# Altium schematic symbol library BundledUserSymbols.SchLib: 915 symbols (part 2 of 17)
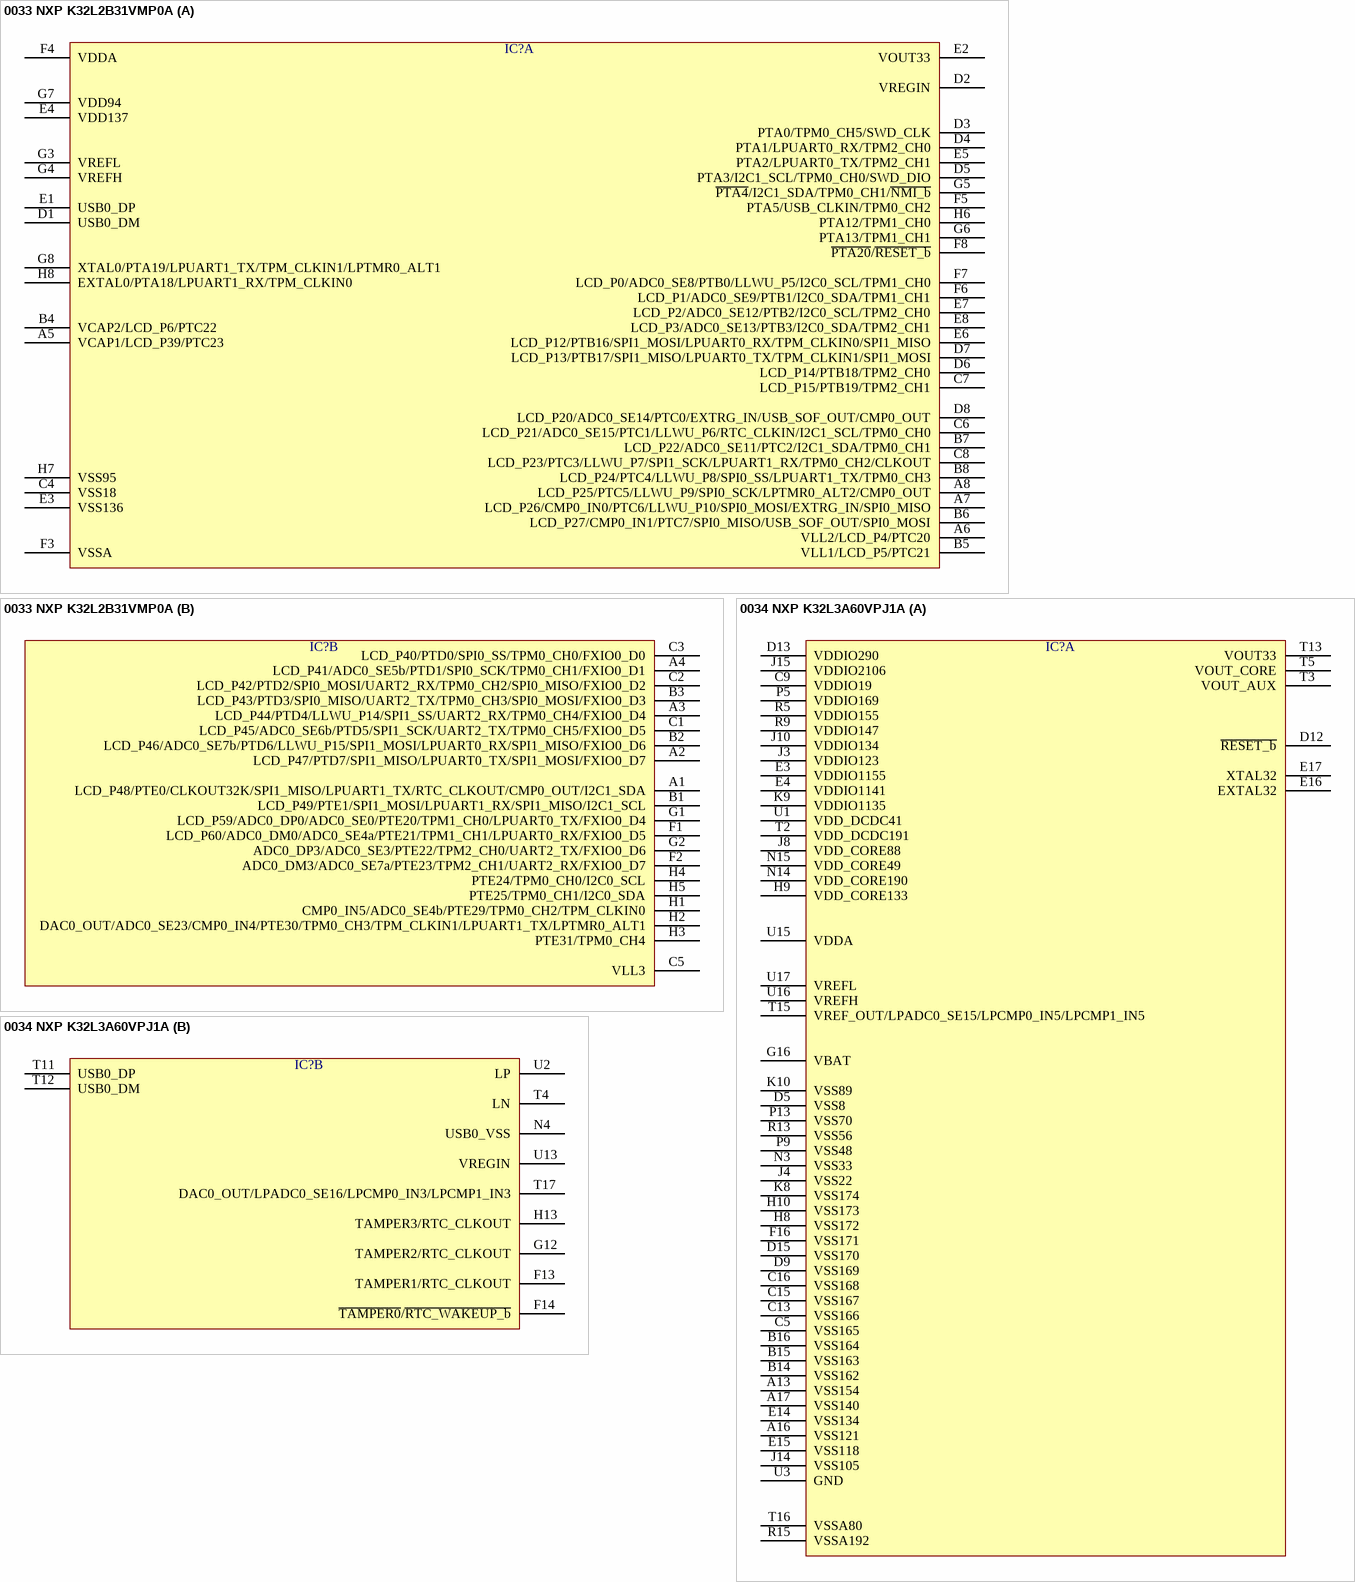
[diagram p170: symbols 0033 NXP K32L2B31VMP0A to 0034 NXP K32L3A60VPJ1A]

## 0033 NXP K32L2B31VMP0A
designator IC?  (value not drawn)
part A pins: A5 VCAP1/LCD_P39/PTC23, A6 VLL2/LCD_P4/PTC20, A7 LCD_P26/CMP0_IN0/PTC6/LLWU_P10/SPI0_MOSI/EXTRG_IN/SPI0_MISO, A8 LCD_P25/PTC5/LLWU_P9/SPI0_SCK/LPTMR0_ALT2/CMP0_OUT, B4 VCAP2/LCD_P6/PTC22, B5 VLL1/LCD_P5/PTC21, B6 LCD_P27/CMP0_IN1/PTC7/SPI0_MISO/USB_SOF_OUT/SPI0_MOSI, B7 LCD_P22/ADC0_SE11/PTC2/I2C1_SDA/TPM0_CH1, B8 LCD_P24/PTC4/LLWU_P8/SPI0_SS/LPUART1_TX/TPM0_CH3, C4 VSS18, C6 LCD_P21/ADC0_SE15/PTC1/LLWU_P6/RTC_CLKIN/I2C1_SCL/TPM0_CH0, C7 LCD_P15/PTB19/TPM2_CH1, C8 LCD_P23/PTC3/LLWU_P7/SPI1_SCK/LPUART1_RX/TPM0_CH2/CLKOUT, D1 USB0_DM, D2 VREGIN, D3 PTA0/TPM0_CH5/SWD_CLK, D4 PTA1/LPUART0_RX/TPM2_CH0, D5 PTA3/I2C1_SCL/TPM0_CH0/SWD_DIO, D6 LCD_P14/PTB18/TPM2_CH0, D7 LCD_P13/PTB17/SPI1_MISO/LPUART0_TX/TPM_CLKIN1/SPI1_MOSI, D8 LCD_P20/ADC0_SE14/PTC0/EXTRG_IN/USB_SOF_OUT/CMP0_OUT, E1 USB0_DP, E2 VOUT33, E3 VSS136, E4 VDD137, E5 PTA2/LPUART0_TX/TPM2_CH1, E6 LCD_P12/PTB16/SPI1_MOSI/LPUART0_RX/TPM_CLKIN0/SPI1_MISO, E7 LCD_P2/ADC0_SE12/PTB2/I2C0_SCL/TPM2_CH0, E8 LCD_P3/ADC0_SE13/PTB3/I2C0_SDA/TPM2_CH1, F3 VSSA, F4 VDDA, F5 PTA5/USB_CLKIN/TPM0_CH2, F6 LCD_P1/ADC0_SE9/PTB1/I2C0_SDA/TPM1_CH1, F7 LCD_P0/ADC0_SE8/PTB0/LLWU_P5/I2C0_SCL/TPM1_CH0, F8 ~{PTA20}/~{RESET_b}, G3 VREFL, G4 VREFH, G5 ~{PTA4}/I2C1_SDA/TPM0_CH1/~{NMI_b}, G6 PTA13/TPM1_CH1, G7 VDD94, G8 XTAL0/PTA19/LPUART1_TX/TPM_CLKIN1/LPTMR0_ALT1, H6 PTA12/TPM1_CH0, H7 VSS95, H8 EXTAL0/PTA18/LPUART1_RX/TPM_CLKIN0
part B pins: A1 LCD_P48/PTE0/CLKOUT32K/SPI1_MISO/LPUART1_TX/RTC_CLKOUT/CMP0_OUT/I2C1_SDA, A2 LCD_P47/PTD7/SPI1_MISO/LPUART0_TX/SPI1_MOSI/FXIO0_D7, A3 LCD_P44/PTD4/LLWU_P14/SPI1_SS/UART2_RX/TPM0_CH4/FXIO0_D4, A4 LCD_P41/ADC0_SE5b/PTD1/SPI0_SCK/TPM0_CH1/FXIO0_D1, B1 LCD_P49/PTE1/SPI1_MOSI/LPUART1_RX/SPI1_MISO/I2C1_SCL, B2 LCD_P46/ADC0_SE7b/PTD6/LLWU_P15/SPI1_MOSI/LPUART0_RX/SPI1_MISO/FXIO0_D6, B3 LCD_P43/PTD3/SPI0_MISO/UART2_TX/TPM0_CH3/SPI0_MOSI/FXIO0_D3, C1 LCD_P45/ADC0_SE6b/PTD5/SPI1_SCK/UART2_TX/TPM0_CH5/FXIO0_D5, C2 LCD_P42/PTD2/SPI0_MOSI/UART2_RX/TPM0_CH2/SPI0_MISO/FXIO0_D2, C3 LCD_P40/PTD0/SPI0_SS/TPM0_CH0/FXIO0_D0, C5 VLL3, F1 LCD_P60/ADC0_DM0/ADC0_SE4a/PTE21/TPM1_CH1/LPUART0_RX/FXIO0_D5, F2 ADC0_DM3/ADC0_SE7a/PTE23/TPM2_CH1/UART2_RX/FXIO0_D7, G1 LCD_P59/ADC0_DP0/ADC0_SE0/PTE20/TPM1_CH0/LPUART0_TX/FXIO0_D4, G2 ADC0_DP3/ADC0_SE3/PTE22/TPM2_CH0/UART2_TX/FXIO0_D6, H1 CMP0_IN5/ADC0_SE4b/PTE29/TPM0_CH2/TPM_CLKIN0, H2 DAC0_OUT/ADC0_SE23/CMP0_IN4/PTE30/TPM0_CH3/TPM_CLKIN1/LPUART1_TX/LPTMR0_ALT1, H3 PTE31/TPM0_CH4, H4 PTE24/TPM0_CH0/I2C0_SCL, H5 PTE25/TPM0_CH1/I2C0_SDA

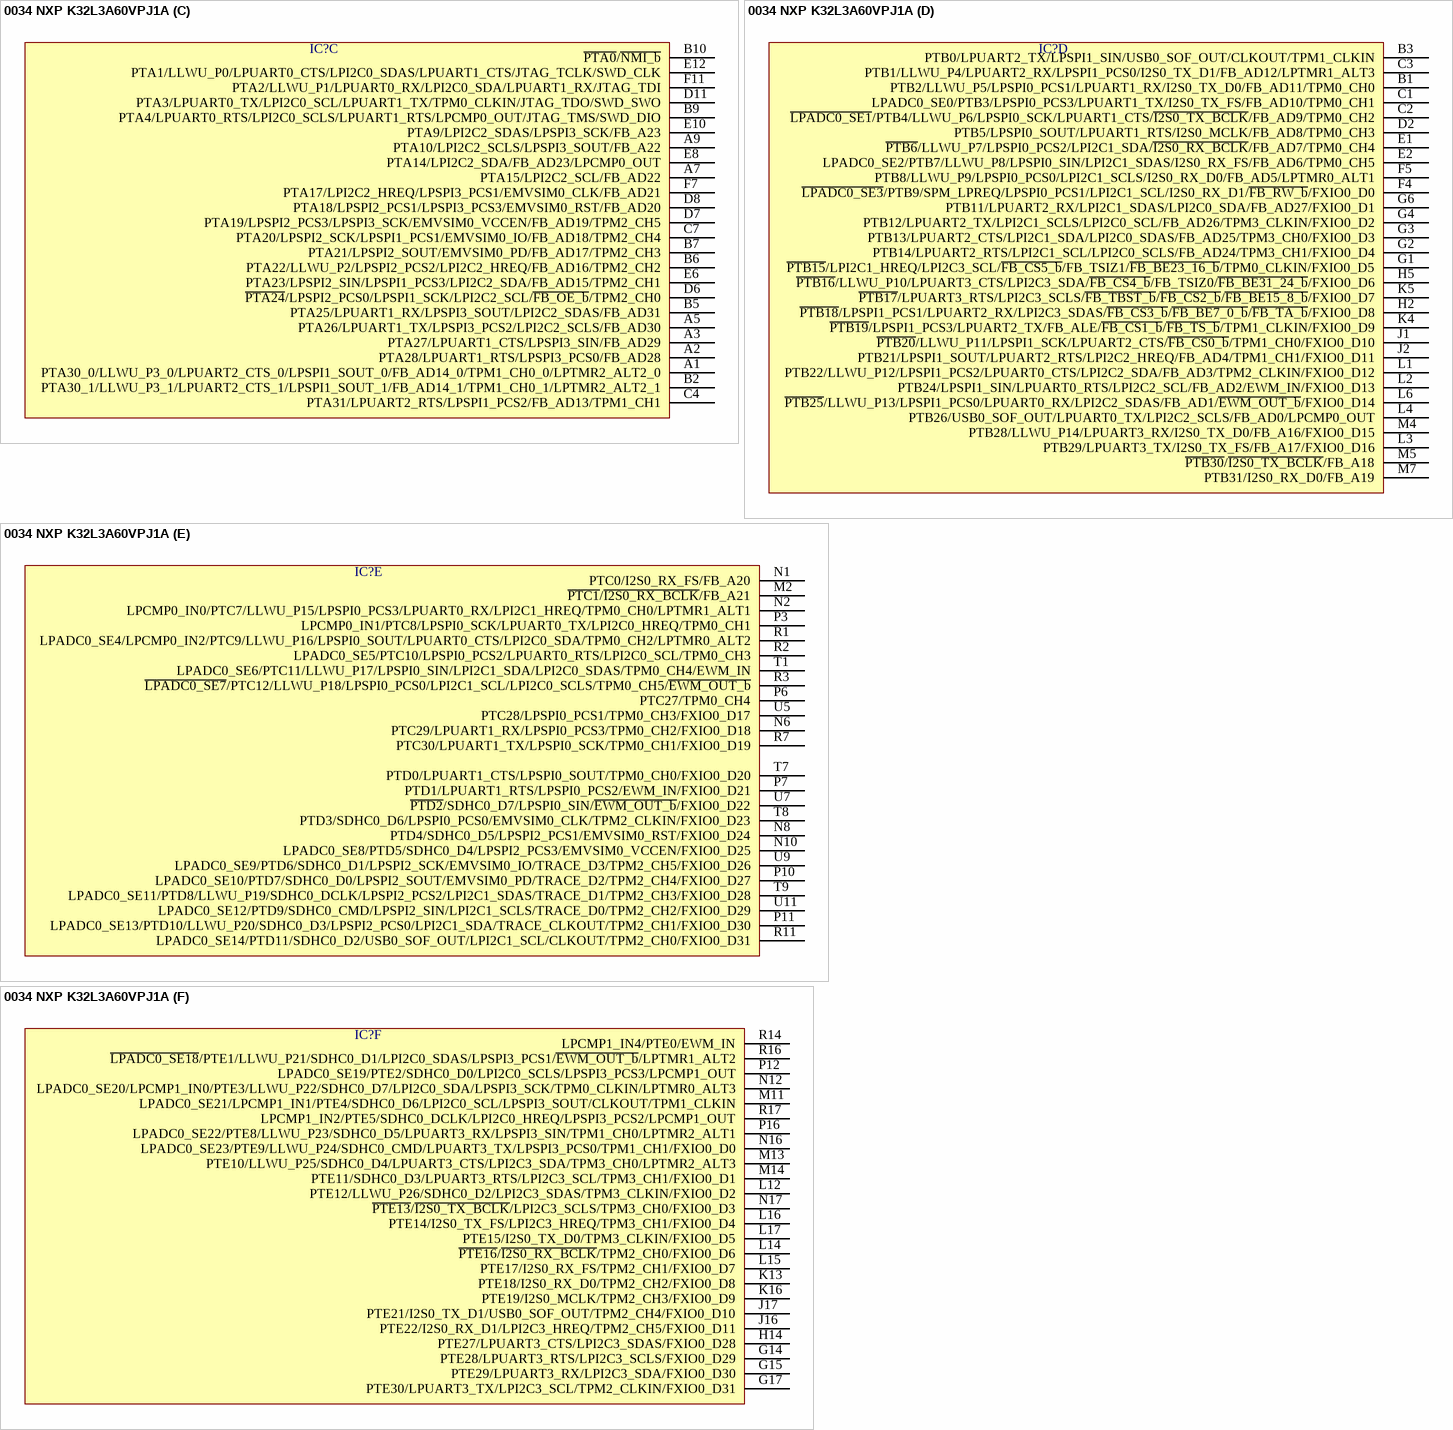
[diagram p14: symbol 0034 NXP K32L3A60VPJ1A]

## 0034 NXP K32L3A60VPJ1A
designator IC?  (value not drawn)
part A pins: A13 VSS154, A16 VSS121, A17 VSS140, B14 VSS162, B15 VSS163, B16 VSS164, C5 VSS165, C9 VDDIO19, C13 VSS166, C15 VSS167, C16 VSS168, D5 VSS8, D9 VSS169, D12 ~{RESET_b}, D13 VDDIO290, D15 VSS170, E3 VDDIO1155, E4 VDDIO1141, E14 VSS134, E15 VSS118, E16 EXTAL32, E17 XTAL32, F16 VSS171, G16 VBAT, H8 VSS172, H9 VDD_CORE133, H10 VSS173, J3 VDDIO123, J4 VSS22, J8 VDD_CORE88, J10 VDDIO134, J14 VSS105, J15 VDDIO2106, K8 VSS174, K9 VDDIO1135, K10 VSS89, N3 VSS33, N14 VDD_CORE190, N15 VDD_CORE49, P5 VDDIO169, P9 VSS48, P13 VSS70, R5 VDDIO155, R9 VDDIO147, R13 VSS56, R15 VSSA192, T2 VDD_DCDC191, T3 VOUT_AUX, T5 VOUT_CORE, T13 VOUT33, T15 VREF_OUT/LPADC0_SE15/LPCMP0_IN5/LPCMP1_IN5, T16 VSSA80, U1 VDD_DCDC41, U3 GND, U15 VDDA, U16 VREFH, U17 VREFL
part B pins: F13 TAMPER1/RTC_CLKOUT, F14 ~{TAMPER0}/~{RTC_WAKEUP_b}, G12 TAMPER2/RTC_CLKOUT, H13 TAMPER3/RTC_CLKOUT, N4 USB0_VSS, T4 LN, T11 USB0_DP, T12 USB0_DM, T17 DAC0_OUT/LPADC0_SE16/LPCMP0_IN3/LPCMP1_IN3, U2 LP, U13 VREGIN
part C pins: A1 PTA30_0/LLWU_P3_0/LPUART2_CTS_0/LPSPI1_SOUT_0/FB_AD14_0/TPM1_CH0_0/LPTMR2_ALT2_0, A2 PTA28/LPUART1_RTS/LPSPI3_PCS0/FB_AD28, A3 PTA27/LPUART1_CTS/LPSPI3_SIN/FB_AD29, A5 PTA26/LPUART1_TX/LPSPI3_PCS2/LPI2C2_SCLS/FB_AD30, A7 PTA15/LPI2C2_SCL/FB_AD22, A9 PTA10/LPI2C2_SCLS/LPSPI3_SOUT/FB_A22, B2 PTA30_1/LLWU_P3_1/LPUART2_CTS_1/LPSPI1_SOUT_1/FB_AD14_1/TPM1_CH0_1/LPTMR2_ALT2_1, B5 PTA25/LPUART1_RX/LPSPI3_SOUT/LPI2C2_SDAS/FB_AD31, B6 PTA22/LLWU_P2/LPSPI2_PCS2/LPI2C2_HREQ/FB_AD16/TPM2_CH2, B7 PTA21/LPSPI2_SOUT/EMVSIM0_PD/FB_AD17/TPM2_CH3, B9 PTA4/LPUART0_RTS/LPI2C0_SCLS/LPUART1_RTS/LPCMP0_OUT/JTAG_TMS/SWD_DIO, B10 ~{PTA0}/~{NMI_b}, C4 PTA31/LPUART2_RTS/LPSPI1_PCS2/FB_AD13/TPM1_CH1, C7 PTA20/LPSPI2_SCK/LPSPI1_PCS1/EMVSIM0_IO/FB_AD18/TPM2_CH4, D6 ~{PTA24}/LPSPI2_PCS0/LPSPI1_SCK/LPI2C2_SCL/~{FB_OE_b}/TPM2_CH0, D7 PTA19/LPSPI2_PCS3/LPSPI3_SCK/EMVSIM0_VCCEN/FB_AD19/TPM2_CH5, D8 PTA18/LPSPI2_PCS1/LPSPI3_PCS3/EMVSIM0_RST/FB_AD20, D11 PTA3/LPUART0_TX/LPI2C0_SCL/LPUART1_TX/TPM0_CLKIN/JTAG_TDO/SWD_SWO, E6 PTA23/LPSPI2_SIN/LPSPI1_PCS3/LPI2C2_SDA/FB_AD15/TPM2_CH1, E8 PTA14/LPI2C2_SDA/FB_AD23/LPCMP0_OUT, E10 PTA9/LPI2C2_SDAS/LPSPI3_SCK/FB_A23, E12 PTA1/LLWU_P0/LPUART0_CTS/LPI2C0_SDAS/LPUART1_CTS/JTAG_TCLK/SWD_CLK, F7 PTA17/LPI2C2_HREQ/LPSPI3_PCS1/EMVSIM0_CLK/FB_AD21, F11 PTA2/LLWU_P1/LPUART0_RX/LPI2C0_SDA/LPUART1_RX/JTAG_TDI
part D pins: B1 PTB2/LLWU_P5/LPSPI0_PCS1/LPUART1_RX/I2S0_TX_D0/FB_AD11/TPM0_CH0, B3 PTB0/LPUART2_TX/LPSPI1_SIN/USB0_SOF_OUT/CLKOUT/TPM1_CLKIN, C1 LPADC0_SE0/PTB3/LPSPI0_PCS3/LPUART1_TX/I2S0_TX_FS/FB_AD10/TPM0_CH1, C2 ~{LPADC0_SE1}/PTB4/LLWU_P6/LPSPI0_SCK/LPUART1_CTS/~{I2S0_TX_BCLK}/FB_AD9/TPM0_CH2, C3 PTB1/LLWU_P4/LPUART2_RX/LPSPI1_PCS0/I2S0_TX_D1/FB_AD12/LPTMR1_ALT3, D2 PTB5/LPSPI0_SOUT/LPUART1_RTS/I2S0_MCLK/FB_AD8/TPM0_CH3, E1 ~{PTB6}/LLWU_P7/LPSPI0_PCS2/LPI2C1_SDA/~{I2S0_RX_BCLK}/FB_AD7/TPM0_CH4, E2 LPADC0_SE2/PTB7/LLWU_P8/LPSPI0_SIN/LPI2C1_SDAS/I2S0_RX_FS/FB_AD6/TPM0_CH5, F4 ~{LPADC0_SE3}/PTB9/SPM_LPREQ/LPSPI0_PCS1/LPI2C1_SCL/I2S0_RX_D1/~{FB_RW_b}/FXIO0_D0, F5 PTB8/LLWU_P9/LPSPI0_PCS0/LPI2C1_SCLS/I2S0_RX_D0/FB_AD5/LPTMR0_ALT1, G1 ~{PTB15}/LPI2C1_HREQ/LPI2C3_SCL/~{FB_CS5_b}/FB_TSIZ1/~{FB_BE23_16_b}/TPM0_CLKIN/FXIO0_D5, G2 PTB14/LPUART2_RTS/LPI2C1_SCL/LPI2C0_SCLS/FB_AD24/TPM3_CH1/FXIO0_D4, G3 PTB13/LPUART2_CTS/LPI2C1_SDA/LPI2C0_SDAS/FB_AD25/TPM3_CH0/FXIO0_D3, G4 PTB12/LPUART2_TX/LPI2C1_SCLS/LPI2C0_SCL/FB_AD26/TPM3_CLKIN/FXIO0_D2, G6 PTB11/LPUART2_RX/LPI2C1_SDAS/LPI2C0_SDA/FB_AD27/FXIO0_D1, H2 ~{PTB18}/LPSPI1_PCS1/LPUART2_RX/LPI2C3_SDAS/~{FB_CS3_b}/~{FB_BE7_0_b}/~{FB_TA_b}/FXIO0_D8, H5 ~{PTB16}/LLWU_P10/LPUART3_CTS/LPI2C3_SDA/~{FB_CS4_b}/FB_TSIZ0/~{FB_BE31_24_b}/FXIO0_D6, J1 ~{PTB20}/LLWU_P11/LPSPI1_SCK/LPUART2_CTS/~{FB_CS0_b}/TPM1_CH0/FXIO0_D10, J2 PTB21/LPSPI1_SOUT/LPUART2_RTS/LPI2C2_HREQ/FB_AD4/TPM1_CH1/FXIO0_D11, K4 ~{PTB19}/LPSPI1_PCS3/LPUART2_TX/FB_ALE/~{FB_CS1_b}/~{FB_TS_b}/TPM1_CLKIN/FXIO0_D9, K5 ~{PTB17}/LPUART3_RTS/LPI2C3_SCLS/~{FB_TBST_b}/~{FB_CS2_b}/~{FB_BE15_8_b}/FXIO0_D7, L1 PTB22/LLWU_P12/LPSPI1_PCS2/LPUART0_CTS/LPI2C2_SDA/FB_AD3/TPM2_CLKIN/FXIO0_D12, L2 PTB24/LPSPI1_SIN/LPUART0_RTS/LPI2C2_SCL/FB_AD2/EWM_IN/FXIO0_D13, L3 PTB29/LPUART3_TX/I2S0_TX_FS/FB_A17/FXIO0_D16, L4 PTB26/USB0_SOF_OUT/LPUART0_TX/LPI2C2_SCLS/FB_AD0/LPCMP0_OUT, L6 ~{PTB25}/LLWU_P13/LPSPI1_PCS0/LPUART0_RX/LPI2C2_SDAS/FB_AD1/~{EWM_OUT_b}/FXIO0_D14, M4 PTB28/LLWU_P14/LPUART3_RX/I2S0_TX_D0/FB_A16/FXIO0_D15, M5 ~{PTB30}/~{I2S0_TX_BCLK}/FB_A18, M7 PTB31/I2S0_RX_D0/FB_A19
part E pins: M2 ~{PTC1}/~{I2S0_RX_BCLK}/FB_A21, N1 PTC0/I2S0_RX_FS/FB_A20, N2 LPCMP0_IN0/PTC7/LLWU_P15/LPSPI0_PCS3/LPUART0_RX/LPI2C1_HREQ/TPM0_CH0/LPTMR1_ALT1, N6 PTC29/LPUART1_RX/LPSPI0_PCS3/TPM0_CH2/FXIO0_D18, N8 PTD4/SDHC0_D5/LPSPI2_PCS1/EMVSIM0_RST/FXIO0_D24, N10 LPADC0_SE8/PTD5/SDHC0_D4/LPSPI2_PCS3/EMVSIM0_VCCEN/FXIO0_D25, P3 LPCMP0_IN1/PTC8/LPSPI0_SCK/LPUART0_TX/LPI2C0_HREQ/TPM0_CH1, P6 PTC27/TPM0_CH4, P7 PTD1/LPUART1_RTS/LPSPI0_PCS2/EWM_IN/FXIO0_D21, P10 LPADC0_SE10/PTD7/SDHC0_D0/LPSPI2_SOUT/EMVSIM0_PD/TRACE_D2/TPM2_CH4/FXIO0_D27, P11 LPADC0_SE13/PTD10/LLWU_P20/SDHC0_D3/LPSPI2_PCS0/LPI2C1_SDA/TRACE_CLKOUT/TPM2_CH1/FXIO0_D30, R1 LPADC0_SE4/LPCMP0_IN2/PTC9/LLWU_P16/LPSPI0_SOUT/LPUART0_CTS/LPI2C0_SDA/TPM0_CH2/LPTMR0_ALT2, R2 LPADC0_SE5/PTC10/LPSPI0_PCS2/LPUART0_RTS/LPI2C0_SCL/TPM0_CH3, R3 ~{LPADC0_SE7}/PTC12/LLWU_P18/LPSPI0_PCS0/LPI2C1_SCL/LPI2C0_SCLS/TPM0_CH5/~{EWM_OUT_b}, R7 PTC30/LPUART1_TX/LPSPI0_SCK/TPM0_CH1/FXIO0_D19, R11 LPADC0_SE14/PTD11/SDHC0_D2/USB0_SOF_OUT/LPI2C1_SCL/CLKOUT/TPM2_CH0/FXIO0_D31, T1 LPADC0_SE6/PTC11/LLWU_P17/LPSPI0_SIN/LPI2C1_SDA/LPI2C0_SDAS/TPM0_CH4/EWM_IN, T7 PTD0/LPUART1_CTS/LPSPI0_SOUT/TPM0_CH0/FXIO0_D20, T8 PTD3/SDHC0_D6/LPSPI0_PCS0/EMVSIM0_CLK/TPM2_CLKIN/FXIO0_D23, T9 LPADC0_SE11/PTD8/LLWU_P19/SDHC0_DCLK/LPSPI2_PCS2/LPI2C1_SDAS/TRACE_D1/TPM2_CH3/FXIO0_D28, U5 PTC28/LPSPI0_PCS1/TPM0_CH3/FXIO0_D17, U7 ~{PTD2}/SDHC0_D7/LPSPI0_SIN/~{EWM_OUT_b}/FXIO0_D22, U9 LPADC0_SE9/PTD6/SDHC0_D1/LPSPI2_SCK/EMVSIM0_IO/TRACE_D3/TPM2_CH5/FXIO0_D26, U11 LPADC0_SE12/PTD9/SDHC0_CMD/LPSPI2_SIN/LPI2C1_SCLS/TRACE_D0/TPM2_CH2/FXIO0_D29
part F pins: G14 PTE28/LPUART3_RTS/LPI2C3_SCLS/FXIO0_D29, G15 PTE29/LPUART3_RX/LPI2C3_SDA/FXIO0_D30, G17 PTE30/LPUART3_TX/LPI2C3_SCL/TPM2_CLKIN/FXIO0_D31, H14 PTE27/LPUART3_CTS/LPI2C3_SDAS/FXIO0_D28, J16 PTE22/I2S0_RX_D1/LPI2C3_HREQ/TPM2_CH5/FXIO0_D11, J17 PTE21/I2S0_TX_D1/USB0_SOF_OUT/TPM2_CH4/FXIO0_D10, K13 PTE18/I2S0_RX_D0/TPM2_CH2/FXIO0_D8, K16 PTE19/I2S0_MCLK/TPM2_CH3/FXIO0_D9, L12 PTE12/LLWU_P26/SDHC0_D2/LPI2C3_SDAS/TPM3_CLKIN/FXIO0_D2, L14 ~{PTE16}/~{I2S0_RX_BCLK}/TPM2_CH0/FXIO0_D6, L15 PTE17/I2S0_RX_FS/TPM2_CH1/FXIO0_D7, L16 PTE14/I2S0_TX_FS/LPI2C3_HREQ/TPM3_CH1/FXIO0_D4, L17 PTE15/I2S0_TX_D0/TPM3_CLKIN/FXIO0_D5, M11 LPADC0_SE21/LPCMP1_IN1/PTE4/SDHC0_D6/LPI2C0_SCL/LPSPI3_SOUT/CLKOUT/TPM1_CLKIN, M13 PTE10/LLWU_P25/SDHC0_D4/LPUART3_CTS/LPI2C3_SDA/TPM3_CH0/LPTMR2_ALT3, M14 PTE11/SDHC0_D3/LPUART3_RTS/LPI2C3_SCL/TPM3_CH1/FXIO0_D1, N12 LPADC0_SE20/LPCMP1_IN0/PTE3/LLWU_P22/SDHC0_D7/LPI2C0_SDA/LPSPI3_SCK/TPM0_CLKIN/LPTMR0_ALT3, N16 LPADC0_SE23/PTE9/LLWU_P24/SDHC0_CMD/LPUART3_TX/LPSPI3_PCS0/TPM1_CH1/FXIO0_D0, N17 ~{PTE13}/~{I2S0_TX_BCLK}/LPI2C3_SCLS/TPM3_CH0/FXIO0_D3, P12 LPADC0_SE19/PTE2/SDHC0_D0/LPI2C0_SCLS/LPSPI3_PCS3/LPCMP1_OUT, P16 LPADC0_SE22/PTE8/LLWU_P23/SDHC0_D5/LPUART3_RX/LPSPI3_SIN/TPM1_CH0/LPTMR2_ALT1, R14 LPCMP1_IN4/PTE0/EWM_IN, R16 ~{LPADC0_SE18}/PTE1/LLWU_P21/SDHC0_D1/LPI2C0_SDAS/LPSPI3_PCS1/~{EWM_OUT_b}/LPTMR1_ALT2, R17 LPCMP1_IN2/PTE5/SDHC0_DCLK/LPI2C0_HREQ/LPSPI3_PCS2/LPCMP1_OUT

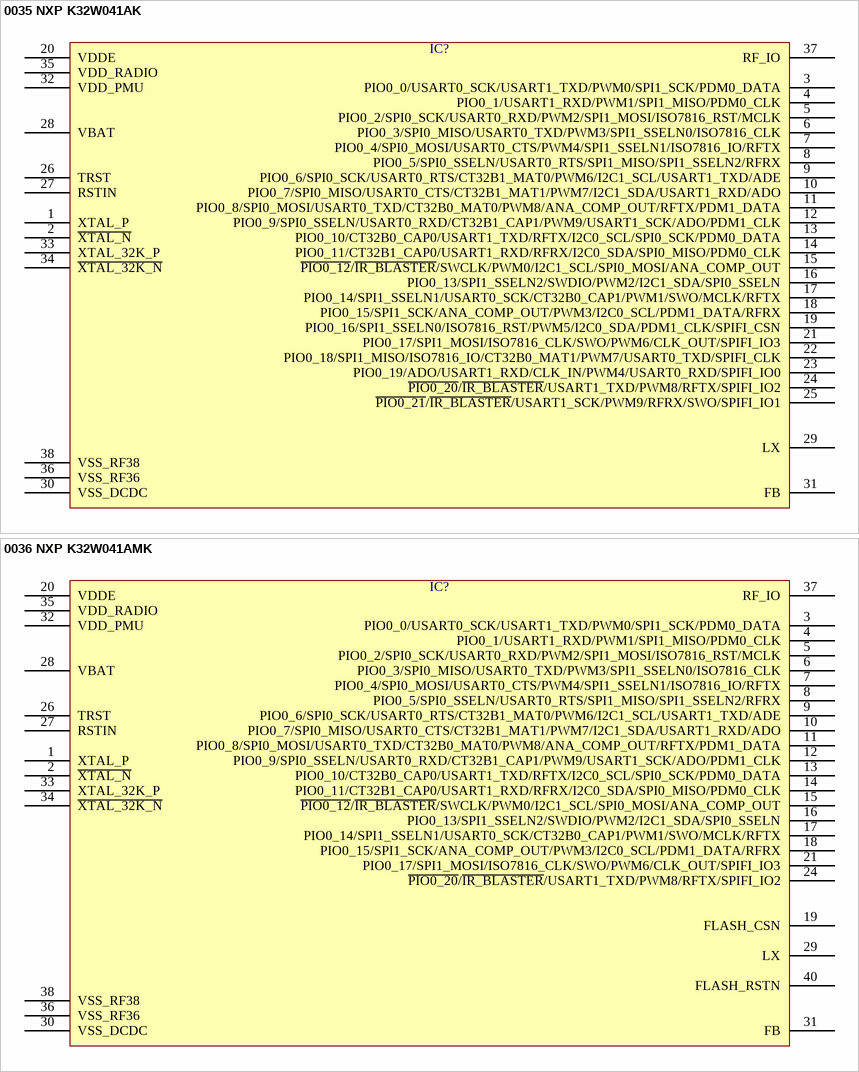
[diagram p15: symbols 0035 NXP K32W041AK to 0036 NXP K32W041AMK]

## 0035 NXP K32W041AK
designator IC?  (value not drawn)
pins: 1 XTAL_P, 2 ~{XTAL_N}, 3 PIO0_0/USART0_SCK/USART1_TXD/PWM0/SPI1_SCK/PDM0_DATA, 4 PIO0_1/USART1_RXD/PWM1/SPI1_MISO/PDM0_CLK, 5 PIO0_2/SPI0_SCK/USART0_RXD/PWM2/SPI1_MOSI/ISO7816_RST/MCLK, 6 PIO0_3/SPI0_MISO/USART0_TXD/PWM3/SPI1_SSELN0/ISO7816_CLK, 7 PIO0_4/SPI0_MOSI/USART0_CTS/PWM4/SPI1_SSELN1/ISO7816_IO/RFTX, 8 PIO0_5/SPI0_SSELN/USART0_RTS/SPI1_MISO/SPI1_SSELN2/RFRX, 9 PIO0_6/SPI0_SCK/USART0_RTS/CT32B1_MAT0/PWM6/I2C1_SCL/USART1_TXD/ADE, 10 PIO0_7/SPI0_MISO/USART0_CTS/CT32B1_MAT1/PWM7/I2C1_SDA/USART1_RXD/ADO, 11 PIO0_8/SPI0_MOSI/USART0_TXD/CT32B0_MAT0/PWM8/ANA_COMP_OUT/RFTX/PDM1_DATA, 12 PIO0_9/SPI0_SSELN/USART0_RXD/CT32B1_CAP1/PWM9/USART1_SCK/ADO/PDM1_CLK, 13 PIO0_10/CT32B0_CAP0/USART1_TXD/RFTX/I2C0_SCL/SPI0_SCK/PDM0_DATA, 14 PIO0_11/CT32B1_CAP0/USART1_RXD/RFRX/I2C0_SDA/SPI0_MISO/PDM0_CLK, 15 ~{PIO0_12}/~{IR_BLASTER}/SWCLK/PWM0/I2C1_SCL/SPI0_MOSI/ANA_COMP_OUT, 16 PIO0_13/SPI1_SSELN2/SWDIO/PWM2/I2C1_SDA/SPI0_SSELN, 17 PIO0_14/SPI1_SSELN1/USART0_SCK/CT32B0_CAP1/PWM1/SWO/MCLK/RFTX, 18 PIO0_15/SPI1_SCK/ANA_COMP_OUT/PWM3/I2C0_SCL/PDM1_DATA/RFRX, 19 PIO0_16/SPI1_SSELN0/ISO7816_RST/PWM5/I2C0_SDA/PDM1_CLK/SPIFI_CSN, 20 VDDE, 21 PIO0_17/SPI1_MOSI/ISO7816_CLK/SWO/PWM6/CLK_OUT/SPIFI_IO3, 22 PIO0_18/SPI1_MISO/ISO7816_IO/CT32B0_MAT1/PWM7/USART0_TXD/SPIFI_CLK, 23 PIO0_19/ADO/USART1_RXD/CLK_IN/PWM4/USART0_RXD/SPIFI_IO0, 24 ~{PIO0_20}/~{IR_BLASTER}/USART1_TXD/PWM8/RFTX/SPIFI_IO2, 25 ~{PIO0_21}/~{IR_BLASTER}/USART1_SCK/PWM9/RFRX/SWO/SPIFI_IO1, 26 TRST, 27 RSTIN, 28 VBAT, 29 LX, 30 VSS_DCDC, 31 FB, 32 VDD_PMU, 33 XTAL_32K_P, 34 ~{XTAL_32K_N}, 35 VDD_RADIO, 36 VSS_RF36, 37 RF_IO, 38 VSS_RF38

## 0036 NXP K32W041AMK
designator IC?  (value not drawn)
pins: 1 XTAL_P, 2 ~{XTAL_N}, 3 PIO0_0/USART0_SCK/USART1_TXD/PWM0/SPI1_SCK/PDM0_DATA, 4 PIO0_1/USART1_RXD/PWM1/SPI1_MISO/PDM0_CLK, 5 PIO0_2/SPI0_SCK/USART0_RXD/PWM2/SPI1_MOSI/ISO7816_RST/MCLK, 6 PIO0_3/SPI0_MISO/USART0_TXD/PWM3/SPI1_SSELN0/ISO7816_CLK, 7 PIO0_4/SPI0_MOSI/USART0_CTS/PWM4/SPI1_SSELN1/ISO7816_IO/RFTX, 8 PIO0_5/SPI0_SSELN/USART0_RTS/SPI1_MISO/SPI1_SSELN2/RFRX, 9 PIO0_6/SPI0_SCK/USART0_RTS/CT32B1_MAT0/PWM6/I2C1_SCL/USART1_TXD/ADE, 10 PIO0_7/SPI0_MISO/USART0_CTS/CT32B1_MAT1/PWM7/I2C1_SDA/USART1_RXD/ADO, 11 PIO0_8/SPI0_MOSI/USART0_TXD/CT32B0_MAT0/PWM8/ANA_COMP_OUT/RFTX/PDM1_DATA, 12 PIO0_9/SPI0_SSELN/USART0_RXD/CT32B1_CAP1/PWM9/USART1_SCK/ADO/PDM1_CLK, 13 PIO0_10/CT32B0_CAP0/USART1_TXD/RFTX/I2C0_SCL/SPI0_SCK/PDM0_DATA, 14 PIO0_11/CT32B1_CAP0/USART1_RXD/RFRX/I2C0_SDA/SPI0_MISO/PDM0_CLK, 15 ~{PIO0_12}/~{IR_BLASTER}/SWCLK/PWM0/I2C1_SCL/SPI0_MOSI/ANA_COMP_OUT, 16 PIO0_13/SPI1_SSELN2/SWDIO/PWM2/I2C1_SDA/SPI0_SSELN, 17 PIO0_14/SPI1_SSELN1/USART0_SCK/CT32B0_CAP1/PWM1/SWO/MCLK/RFTX, 18 PIO0_15/SPI1_SCK/ANA_COMP_OUT/PWM3/I2C0_SCL/PDM1_DATA/RFRX, 19 FLASH_CSN, 20 VDDE, 21 PIO0_17/SPI1_MOSI/ISO7816_CLK/SWO/PWM6/CLK_OUT/SPIFI_IO3, 24 ~{PIO0_20}/~{IR_BLASTER}/USART1_TXD/PWM8/RFTX/SPIFI_IO2, 26 TRST, 27 RSTIN, 28 VBAT, 29 LX, 30 VSS_DCDC, 31 FB, 32 VDD_PMU, 33 XTAL_32K_P, 34 ~{XTAL_32K_N}, 35 VDD_RADIO, 36 VSS_RF36, 37 RF_IO, 38 VSS_RF38, 40 FLASH_RSTN

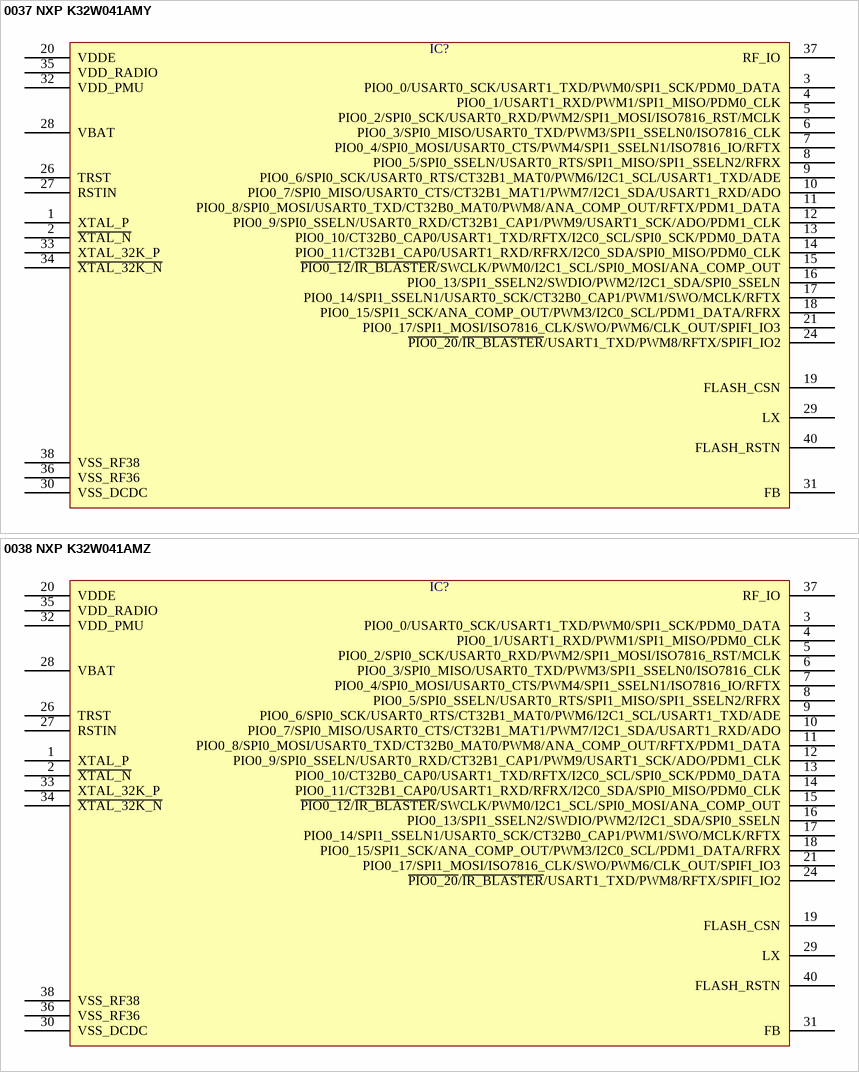
[diagram p16: symbols 0037 NXP K32W041AMY to 0038 NXP K32W041AMZ]

## 0037 NXP K32W041AMY
designator IC?  (value not drawn)
pins: 1 XTAL_P, 2 ~{XTAL_N}, 3 PIO0_0/USART0_SCK/USART1_TXD/PWM0/SPI1_SCK/PDM0_DATA, 4 PIO0_1/USART1_RXD/PWM1/SPI1_MISO/PDM0_CLK, 5 PIO0_2/SPI0_SCK/USART0_RXD/PWM2/SPI1_MOSI/ISO7816_RST/MCLK, 6 PIO0_3/SPI0_MISO/USART0_TXD/PWM3/SPI1_SSELN0/ISO7816_CLK, 7 PIO0_4/SPI0_MOSI/USART0_CTS/PWM4/SPI1_SSELN1/ISO7816_IO/RFTX, 8 PIO0_5/SPI0_SSELN/USART0_RTS/SPI1_MISO/SPI1_SSELN2/RFRX, 9 PIO0_6/SPI0_SCK/USART0_RTS/CT32B1_MAT0/PWM6/I2C1_SCL/USART1_TXD/ADE, 10 PIO0_7/SPI0_MISO/USART0_CTS/CT32B1_MAT1/PWM7/I2C1_SDA/USART1_RXD/ADO, 11 PIO0_8/SPI0_MOSI/USART0_TXD/CT32B0_MAT0/PWM8/ANA_COMP_OUT/RFTX/PDM1_DATA, 12 PIO0_9/SPI0_SSELN/USART0_RXD/CT32B1_CAP1/PWM9/USART1_SCK/ADO/PDM1_CLK, 13 PIO0_10/CT32B0_CAP0/USART1_TXD/RFTX/I2C0_SCL/SPI0_SCK/PDM0_DATA, 14 PIO0_11/CT32B1_CAP0/USART1_RXD/RFRX/I2C0_SDA/SPI0_MISO/PDM0_CLK, 15 ~{PIO0_12}/~{IR_BLASTER}/SWCLK/PWM0/I2C1_SCL/SPI0_MOSI/ANA_COMP_OUT, 16 PIO0_13/SPI1_SSELN2/SWDIO/PWM2/I2C1_SDA/SPI0_SSELN, 17 PIO0_14/SPI1_SSELN1/USART0_SCK/CT32B0_CAP1/PWM1/SWO/MCLK/RFTX, 18 PIO0_15/SPI1_SCK/ANA_COMP_OUT/PWM3/I2C0_SCL/PDM1_DATA/RFRX, 19 FLASH_CSN, 20 VDDE, 21 PIO0_17/SPI1_MOSI/ISO7816_CLK/SWO/PWM6/CLK_OUT/SPIFI_IO3, 24 ~{PIO0_20}/~{IR_BLASTER}/USART1_TXD/PWM8/RFTX/SPIFI_IO2, 26 TRST, 27 RSTIN, 28 VBAT, 29 LX, 30 VSS_DCDC, 31 FB, 32 VDD_PMU, 33 XTAL_32K_P, 34 ~{XTAL_32K_N}, 35 VDD_RADIO, 36 VSS_RF36, 37 RF_IO, 38 VSS_RF38, 40 FLASH_RSTN

## 0038 NXP K32W041AMZ
designator IC?  (value not drawn)
pins: 1 XTAL_P, 2 ~{XTAL_N}, 3 PIO0_0/USART0_SCK/USART1_TXD/PWM0/SPI1_SCK/PDM0_DATA, 4 PIO0_1/USART1_RXD/PWM1/SPI1_MISO/PDM0_CLK, 5 PIO0_2/SPI0_SCK/USART0_RXD/PWM2/SPI1_MOSI/ISO7816_RST/MCLK, 6 PIO0_3/SPI0_MISO/USART0_TXD/PWM3/SPI1_SSELN0/ISO7816_CLK, 7 PIO0_4/SPI0_MOSI/USART0_CTS/PWM4/SPI1_SSELN1/ISO7816_IO/RFTX, 8 PIO0_5/SPI0_SSELN/USART0_RTS/SPI1_MISO/SPI1_SSELN2/RFRX, 9 PIO0_6/SPI0_SCK/USART0_RTS/CT32B1_MAT0/PWM6/I2C1_SCL/USART1_TXD/ADE, 10 PIO0_7/SPI0_MISO/USART0_CTS/CT32B1_MAT1/PWM7/I2C1_SDA/USART1_RXD/ADO, 11 PIO0_8/SPI0_MOSI/USART0_TXD/CT32B0_MAT0/PWM8/ANA_COMP_OUT/RFTX/PDM1_DATA, 12 PIO0_9/SPI0_SSELN/USART0_RXD/CT32B1_CAP1/PWM9/USART1_SCK/ADO/PDM1_CLK, 13 PIO0_10/CT32B0_CAP0/USART1_TXD/RFTX/I2C0_SCL/SPI0_SCK/PDM0_DATA, 14 PIO0_11/CT32B1_CAP0/USART1_RXD/RFRX/I2C0_SDA/SPI0_MISO/PDM0_CLK, 15 ~{PIO0_12}/~{IR_BLASTER}/SWCLK/PWM0/I2C1_SCL/SPI0_MOSI/ANA_COMP_OUT, 16 PIO0_13/SPI1_SSELN2/SWDIO/PWM2/I2C1_SDA/SPI0_SSELN, 17 PIO0_14/SPI1_SSELN1/USART0_SCK/CT32B0_CAP1/PWM1/SWO/MCLK/RFTX, 18 PIO0_15/SPI1_SCK/ANA_COMP_OUT/PWM3/I2C0_SCL/PDM1_DATA/RFRX, 19 FLASH_CSN, 20 VDDE, 21 PIO0_17/SPI1_MOSI/ISO7816_CLK/SWO/PWM6/CLK_OUT/SPIFI_IO3, 24 ~{PIO0_20}/~{IR_BLASTER}/USART1_TXD/PWM8/RFTX/SPIFI_IO2, 26 TRST, 27 RSTIN, 28 VBAT, 29 LX, 30 VSS_DCDC, 31 FB, 32 VDD_PMU, 33 XTAL_32K_P, 34 ~{XTAL_32K_N}, 35 VDD_RADIO, 36 VSS_RF36, 37 RF_IO, 38 VSS_RF38, 40 FLASH_RSTN

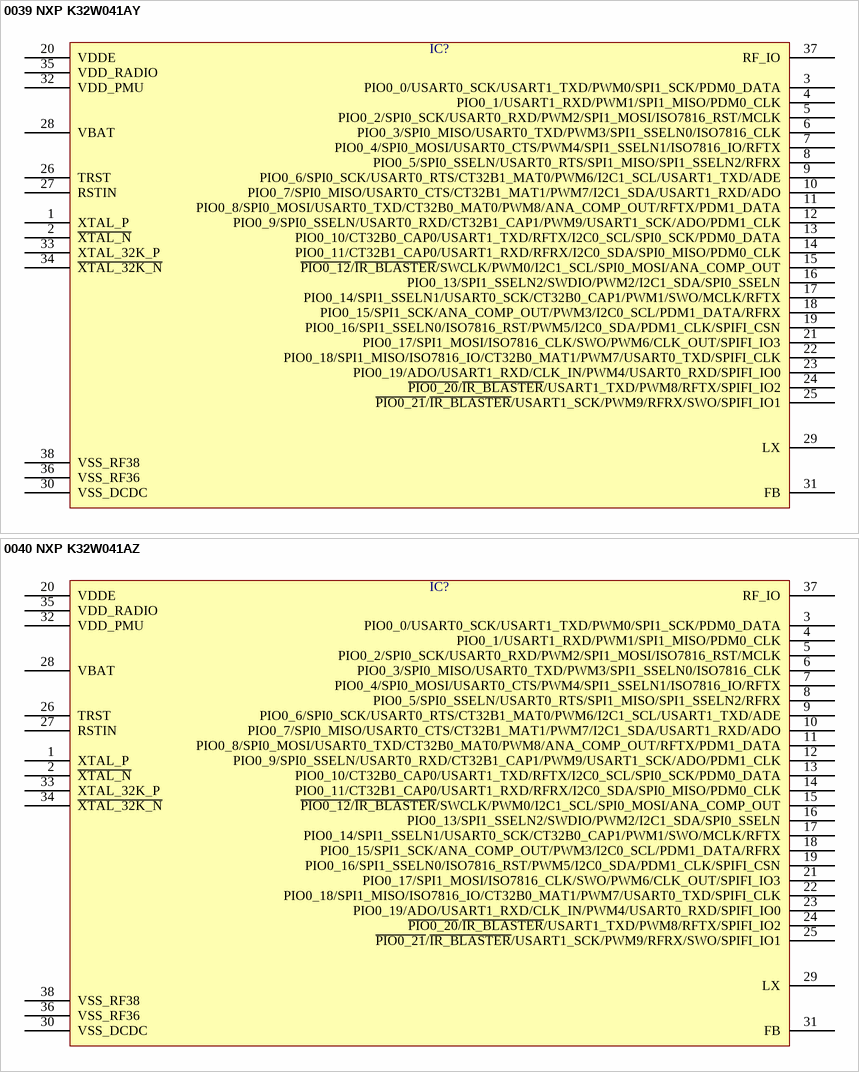
[diagram p17: symbols 0039 NXP K32W041AY to 0040 NXP K32W041AZ]

## 0039 NXP K32W041AY
designator IC?  (value not drawn)
pins: 1 XTAL_P, 2 ~{XTAL_N}, 3 PIO0_0/USART0_SCK/USART1_TXD/PWM0/SPI1_SCK/PDM0_DATA, 4 PIO0_1/USART1_RXD/PWM1/SPI1_MISO/PDM0_CLK, 5 PIO0_2/SPI0_SCK/USART0_RXD/PWM2/SPI1_MOSI/ISO7816_RST/MCLK, 6 PIO0_3/SPI0_MISO/USART0_TXD/PWM3/SPI1_SSELN0/ISO7816_CLK, 7 PIO0_4/SPI0_MOSI/USART0_CTS/PWM4/SPI1_SSELN1/ISO7816_IO/RFTX, 8 PIO0_5/SPI0_SSELN/USART0_RTS/SPI1_MISO/SPI1_SSELN2/RFRX, 9 PIO0_6/SPI0_SCK/USART0_RTS/CT32B1_MAT0/PWM6/I2C1_SCL/USART1_TXD/ADE, 10 PIO0_7/SPI0_MISO/USART0_CTS/CT32B1_MAT1/PWM7/I2C1_SDA/USART1_RXD/ADO, 11 PIO0_8/SPI0_MOSI/USART0_TXD/CT32B0_MAT0/PWM8/ANA_COMP_OUT/RFTX/PDM1_DATA, 12 PIO0_9/SPI0_SSELN/USART0_RXD/CT32B1_CAP1/PWM9/USART1_SCK/ADO/PDM1_CLK, 13 PIO0_10/CT32B0_CAP0/USART1_TXD/RFTX/I2C0_SCL/SPI0_SCK/PDM0_DATA, 14 PIO0_11/CT32B1_CAP0/USART1_RXD/RFRX/I2C0_SDA/SPI0_MISO/PDM0_CLK, 15 ~{PIO0_12}/~{IR_BLASTER}/SWCLK/PWM0/I2C1_SCL/SPI0_MOSI/ANA_COMP_OUT, 16 PIO0_13/SPI1_SSELN2/SWDIO/PWM2/I2C1_SDA/SPI0_SSELN, 17 PIO0_14/SPI1_SSELN1/USART0_SCK/CT32B0_CAP1/PWM1/SWO/MCLK/RFTX, 18 PIO0_15/SPI1_SCK/ANA_COMP_OUT/PWM3/I2C0_SCL/PDM1_DATA/RFRX, 19 PIO0_16/SPI1_SSELN0/ISO7816_RST/PWM5/I2C0_SDA/PDM1_CLK/SPIFI_CSN, 20 VDDE, 21 PIO0_17/SPI1_MOSI/ISO7816_CLK/SWO/PWM6/CLK_OUT/SPIFI_IO3, 22 PIO0_18/SPI1_MISO/ISO7816_IO/CT32B0_MAT1/PWM7/USART0_TXD/SPIFI_CLK, 23 PIO0_19/ADO/USART1_RXD/CLK_IN/PWM4/USART0_RXD/SPIFI_IO0, 24 ~{PIO0_20}/~{IR_BLASTER}/USART1_TXD/PWM8/RFTX/SPIFI_IO2, 25 ~{PIO0_21}/~{IR_BLASTER}/USART1_SCK/PWM9/RFRX/SWO/SPIFI_IO1, 26 TRST, 27 RSTIN, 28 VBAT, 29 LX, 30 VSS_DCDC, 31 FB, 32 VDD_PMU, 33 XTAL_32K_P, 34 ~{XTAL_32K_N}, 35 VDD_RADIO, 36 VSS_RF36, 37 RF_IO, 38 VSS_RF38

## 0040 NXP K32W041AZ
designator IC?  (value not drawn)
pins: 1 XTAL_P, 2 ~{XTAL_N}, 3 PIO0_0/USART0_SCK/USART1_TXD/PWM0/SPI1_SCK/PDM0_DATA, 4 PIO0_1/USART1_RXD/PWM1/SPI1_MISO/PDM0_CLK, 5 PIO0_2/SPI0_SCK/USART0_RXD/PWM2/SPI1_MOSI/ISO7816_RST/MCLK, 6 PIO0_3/SPI0_MISO/USART0_TXD/PWM3/SPI1_SSELN0/ISO7816_CLK, 7 PIO0_4/SPI0_MOSI/USART0_CTS/PWM4/SPI1_SSELN1/ISO7816_IO/RFTX, 8 PIO0_5/SPI0_SSELN/USART0_RTS/SPI1_MISO/SPI1_SSELN2/RFRX, 9 PIO0_6/SPI0_SCK/USART0_RTS/CT32B1_MAT0/PWM6/I2C1_SCL/USART1_TXD/ADE, 10 PIO0_7/SPI0_MISO/USART0_CTS/CT32B1_MAT1/PWM7/I2C1_SDA/USART1_RXD/ADO, 11 PIO0_8/SPI0_MOSI/USART0_TXD/CT32B0_MAT0/PWM8/ANA_COMP_OUT/RFTX/PDM1_DATA, 12 PIO0_9/SPI0_SSELN/USART0_RXD/CT32B1_CAP1/PWM9/USART1_SCK/ADO/PDM1_CLK, 13 PIO0_10/CT32B0_CAP0/USART1_TXD/RFTX/I2C0_SCL/SPI0_SCK/PDM0_DATA, 14 PIO0_11/CT32B1_CAP0/USART1_RXD/RFRX/I2C0_SDA/SPI0_MISO/PDM0_CLK, 15 ~{PIO0_12}/~{IR_BLASTER}/SWCLK/PWM0/I2C1_SCL/SPI0_MOSI/ANA_COMP_OUT, 16 PIO0_13/SPI1_SSELN2/SWDIO/PWM2/I2C1_SDA/SPI0_SSELN, 17 PIO0_14/SPI1_SSELN1/USART0_SCK/CT32B0_CAP1/PWM1/SWO/MCLK/RFTX, 18 PIO0_15/SPI1_SCK/ANA_COMP_OUT/PWM3/I2C0_SCL/PDM1_DATA/RFRX, 19 PIO0_16/SPI1_SSELN0/ISO7816_RST/PWM5/I2C0_SDA/PDM1_CLK/SPIFI_CSN, 20 VDDE, 21 PIO0_17/SPI1_MOSI/ISO7816_CLK/SWO/PWM6/CLK_OUT/SPIFI_IO3, 22 PIO0_18/SPI1_MISO/ISO7816_IO/CT32B0_MAT1/PWM7/USART0_TXD/SPIFI_CLK, 23 PIO0_19/ADO/USART1_RXD/CLK_IN/PWM4/USART0_RXD/SPIFI_IO0, 24 ~{PIO0_20}/~{IR_BLASTER}/USART1_TXD/PWM8/RFTX/SPIFI_IO2, 25 ~{PIO0_21}/~{IR_BLASTER}/USART1_SCK/PWM9/RFRX/SWO/SPIFI_IO1, 26 TRST, 27 RSTIN, 28 VBAT, 29 LX, 30 VSS_DCDC, 31 FB, 32 VDD_PMU, 33 XTAL_32K_P, 34 ~{XTAL_32K_N}, 35 VDD_RADIO, 36 VSS_RF36, 37 RF_IO, 38 VSS_RF38

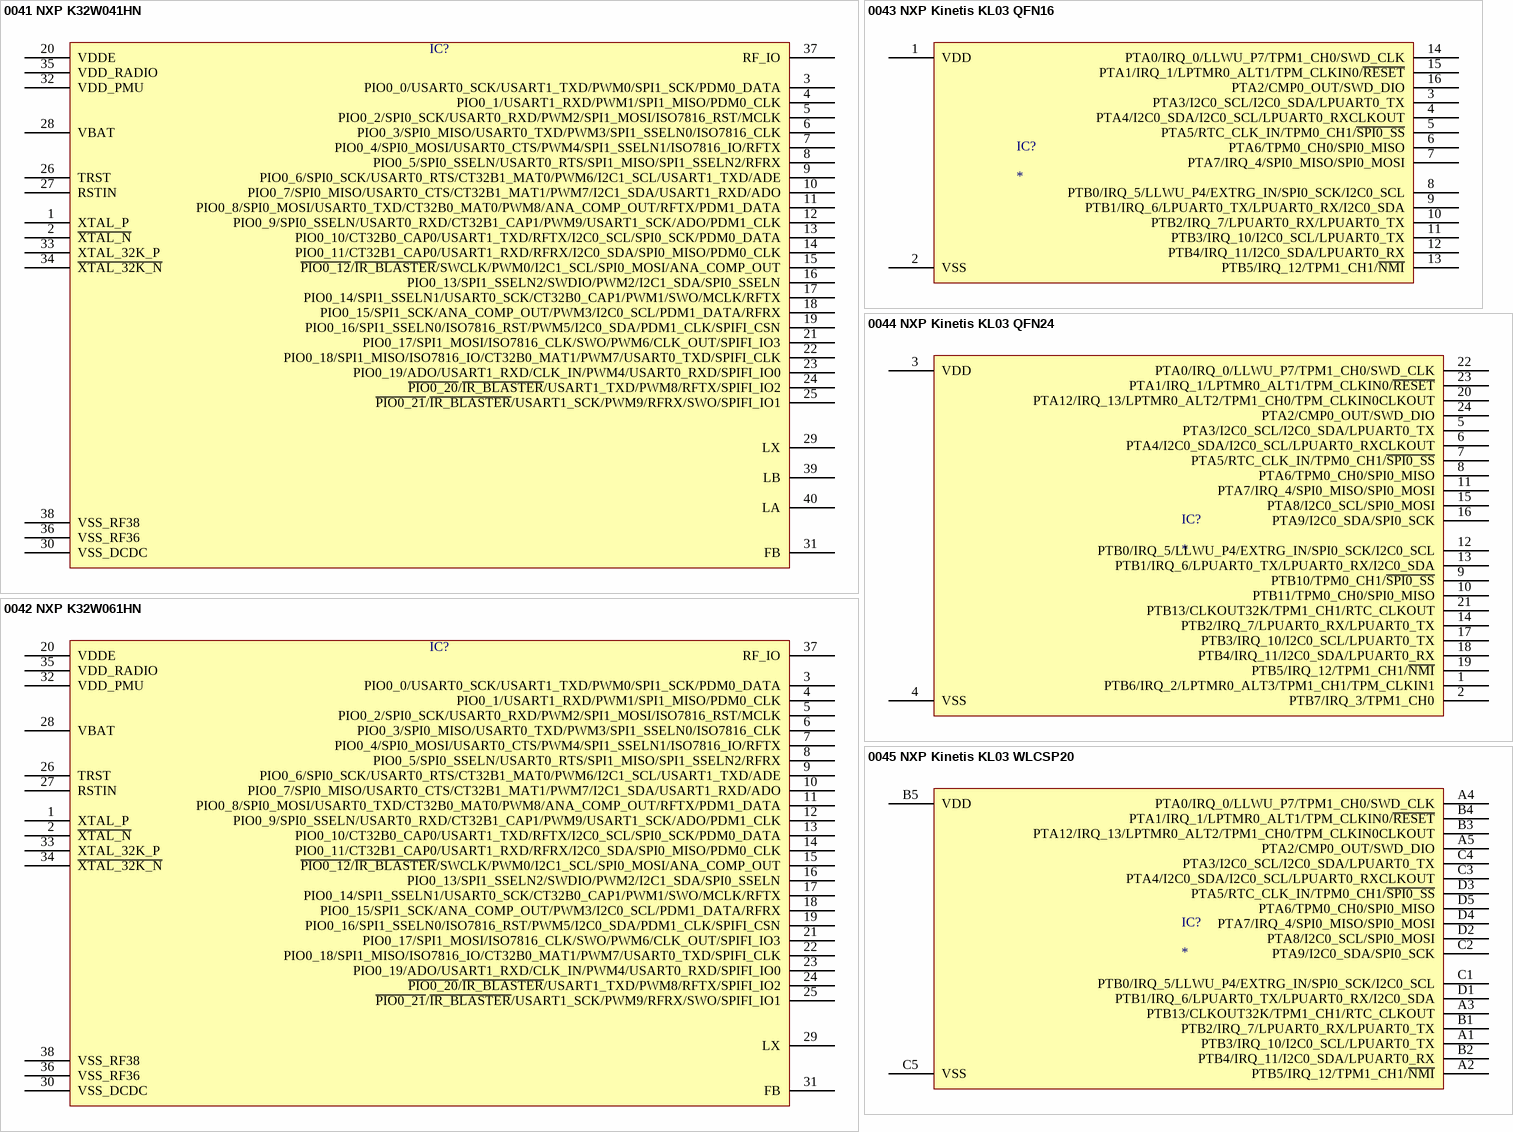
[diagram p18: symbols 0041 NXP K32W041HN to 0045 NXP Kinetis KL03 WLCSP20]

## 0041 NXP K32W041HN
designator IC?  (value not drawn)
pins: 1 XTAL_P, 2 ~{XTAL_N}, 3 PIO0_0/USART0_SCK/USART1_TXD/PWM0/SPI1_SCK/PDM0_DATA, 4 PIO0_1/USART1_RXD/PWM1/SPI1_MISO/PDM0_CLK, 5 PIO0_2/SPI0_SCK/USART0_RXD/PWM2/SPI1_MOSI/ISO7816_RST/MCLK, 6 PIO0_3/SPI0_MISO/USART0_TXD/PWM3/SPI1_SSELN0/ISO7816_CLK, 7 PIO0_4/SPI0_MOSI/USART0_CTS/PWM4/SPI1_SSELN1/ISO7816_IO/RFTX, 8 PIO0_5/SPI0_SSELN/USART0_RTS/SPI1_MISO/SPI1_SSELN2/RFRX, 9 PIO0_6/SPI0_SCK/USART0_RTS/CT32B1_MAT0/PWM6/I2C1_SCL/USART1_TXD/ADE, 10 PIO0_7/SPI0_MISO/USART0_CTS/CT32B1_MAT1/PWM7/I2C1_SDA/USART1_RXD/ADO, 11 PIO0_8/SPI0_MOSI/USART0_TXD/CT32B0_MAT0/PWM8/ANA_COMP_OUT/RFTX/PDM1_DATA, 12 PIO0_9/SPI0_SSELN/USART0_RXD/CT32B1_CAP1/PWM9/USART1_SCK/ADO/PDM1_CLK, 13 PIO0_10/CT32B0_CAP0/USART1_TXD/RFTX/I2C0_SCL/SPI0_SCK/PDM0_DATA, 14 PIO0_11/CT32B1_CAP0/USART1_RXD/RFRX/I2C0_SDA/SPI0_MISO/PDM0_CLK, 15 ~{PIO0_12}/~{IR_BLASTER}/SWCLK/PWM0/I2C1_SCL/SPI0_MOSI/ANA_COMP_OUT, 16 PIO0_13/SPI1_SSELN2/SWDIO/PWM2/I2C1_SDA/SPI0_SSELN, 17 PIO0_14/SPI1_SSELN1/USART0_SCK/CT32B0_CAP1/PWM1/SWO/MCLK/RFTX, 18 PIO0_15/SPI1_SCK/ANA_COMP_OUT/PWM3/I2C0_SCL/PDM1_DATA/RFRX, 19 PIO0_16/SPI1_SSELN0/ISO7816_RST/PWM5/I2C0_SDA/PDM1_CLK/SPIFI_CSN, 20 VDDE, 21 PIO0_17/SPI1_MOSI/ISO7816_CLK/SWO/PWM6/CLK_OUT/SPIFI_IO3, 22 PIO0_18/SPI1_MISO/ISO7816_IO/CT32B0_MAT1/PWM7/USART0_TXD/SPIFI_CLK, 23 PIO0_19/ADO/USART1_RXD/CLK_IN/PWM4/USART0_RXD/SPIFI_IO0, 24 ~{PIO0_20}/~{IR_BLASTER}/USART1_TXD/PWM8/RFTX/SPIFI_IO2, 25 ~{PIO0_21}/~{IR_BLASTER}/USART1_SCK/PWM9/RFRX/SWO/SPIFI_IO1, 26 TRST, 27 RSTIN, 28 VBAT, 29 LX, 30 VSS_DCDC, 31 FB, 32 VDD_PMU, 33 XTAL_32K_P, 34 ~{XTAL_32K_N}, 35 VDD_RADIO, 36 VSS_RF36, 37 RF_IO, 38 VSS_RF38, 39 LB, 40 LA

## 0042 NXP K32W061HN
designator IC?  (value not drawn)
pins: 1 XTAL_P, 2 ~{XTAL_N}, 3 PIO0_0/USART0_SCK/USART1_TXD/PWM0/SPI1_SCK/PDM0_DATA, 4 PIO0_1/USART1_RXD/PWM1/SPI1_MISO/PDM0_CLK, 5 PIO0_2/SPI0_SCK/USART0_RXD/PWM2/SPI1_MOSI/ISO7816_RST/MCLK, 6 PIO0_3/SPI0_MISO/USART0_TXD/PWM3/SPI1_SSELN0/ISO7816_CLK, 7 PIO0_4/SPI0_MOSI/USART0_CTS/PWM4/SPI1_SSELN1/ISO7816_IO/RFTX, 8 PIO0_5/SPI0_SSELN/USART0_RTS/SPI1_MISO/SPI1_SSELN2/RFRX, 9 PIO0_6/SPI0_SCK/USART0_RTS/CT32B1_MAT0/PWM6/I2C1_SCL/USART1_TXD/ADE, 10 PIO0_7/SPI0_MISO/USART0_CTS/CT32B1_MAT1/PWM7/I2C1_SDA/USART1_RXD/ADO, 11 PIO0_8/SPI0_MOSI/USART0_TXD/CT32B0_MAT0/PWM8/ANA_COMP_OUT/RFTX/PDM1_DATA, 12 PIO0_9/SPI0_SSELN/USART0_RXD/CT32B1_CAP1/PWM9/USART1_SCK/ADO/PDM1_CLK, 13 PIO0_10/CT32B0_CAP0/USART1_TXD/RFTX/I2C0_SCL/SPI0_SCK/PDM0_DATA, 14 PIO0_11/CT32B1_CAP0/USART1_RXD/RFRX/I2C0_SDA/SPI0_MISO/PDM0_CLK, 15 ~{PIO0_12}/~{IR_BLASTER}/SWCLK/PWM0/I2C1_SCL/SPI0_MOSI/ANA_COMP_OUT, 16 PIO0_13/SPI1_SSELN2/SWDIO/PWM2/I2C1_SDA/SPI0_SSELN, 17 PIO0_14/SPI1_SSELN1/USART0_SCK/CT32B0_CAP1/PWM1/SWO/MCLK/RFTX, 18 PIO0_15/SPI1_SCK/ANA_COMP_OUT/PWM3/I2C0_SCL/PDM1_DATA/RFRX, 19 PIO0_16/SPI1_SSELN0/ISO7816_RST/PWM5/I2C0_SDA/PDM1_CLK/SPIFI_CSN, 20 VDDE, 21 PIO0_17/SPI1_MOSI/ISO7816_CLK/SWO/PWM6/CLK_OUT/SPIFI_IO3, 22 PIO0_18/SPI1_MISO/ISO7816_IO/CT32B0_MAT1/PWM7/USART0_TXD/SPIFI_CLK, 23 PIO0_19/ADO/USART1_RXD/CLK_IN/PWM4/USART0_RXD/SPIFI_IO0, 24 ~{PIO0_20}/~{IR_BLASTER}/USART1_TXD/PWM8/RFTX/SPIFI_IO2, 25 ~{PIO0_21}/~{IR_BLASTER}/USART1_SCK/PWM9/RFRX/SWO/SPIFI_IO1, 26 TRST, 27 RSTIN, 28 VBAT, 29 LX, 30 VSS_DCDC, 31 FB, 32 VDD_PMU, 33 XTAL_32K_P, 34 ~{XTAL_32K_N}, 35 VDD_RADIO, 36 VSS_RF36, 37 RF_IO, 38 VSS_RF38

## 0043 NXP Kinetis KL03 QFN16
designator IC?
pins: 1 VDD, 2 VSS, 3 PTA3/I2C0_SCL/I2C0_SDA/LPUART0_TX, 4 PTA4/I2C0_SDA/I2C0_SCL/LPUART0_RXCLKOUT, 5 PTA5/RTC_CLK_IN/TPM0_CH1/~{SPI0_SS}, 6 PTA6/TPM0_CH0/SPI0_MISO, 7 PTA7/IRQ_4/SPI0_MISO/SPI0_MOSI, 8 PTB0/IRQ_5/LLWU_P4/EXTRG_IN/SPI0_SCK/I2C0_SCL, 9 PTB1/IRQ_6/LPUART0_TX/LPUART0_RX/I2C0_SDA, 10 PTB2/IRQ_7/LPUART0_RX/LPUART0_TX, 11 PTB3/IRQ_10/I2C0_SCL/LPUART0_TX, 12 PTB4/IRQ_11/I2C0_SDA/LPUART0_RX, 13 PTB5/IRQ_12/TPM1_CH1/~{NMI}, 14 PTA0/IRQ_0/LLWU_P7/TPM1_CH0/SWD_CLK, 15 PTA1/IRQ_1/LPTMR0_ALT1/TPM_CLKIN0/~{RESET}, 16 PTA2/CMP0_OUT/SWD_DIO

## 0044 NXP Kinetis KL03 QFN24
designator IC?
pins: 1 PTB6/IRQ_2/LPTMR0_ALT3/TPM1_CH1/TPM_CLKIN1, 2 PTB7/IRQ_3/TPM1_CH0, 3 VDD, 4 VSS, 5 PTA3/I2C0_SCL/I2C0_SDA/LPUART0_TX, 6 PTA4/I2C0_SDA/I2C0_SCL/LPUART0_RXCLKOUT, 7 PTA5/RTC_CLK_IN/TPM0_CH1/~{SPI0_SS}, 8 PTA6/TPM0_CH0/SPI0_MISO, 9 PTB10/TPM0_CH1/~{SPI0_SS}, 10 PTB11/TPM0_CH0/SPI0_MISO, 11 PTA7/IRQ_4/SPI0_MISO/SPI0_MOSI, 12 PTB0/IRQ_5/LLWU_P4/EXTRG_IN/SPI0_SCK/I2C0_SCL, 13 PTB1/IRQ_6/LPUART0_TX/LPUART0_RX/I2C0_SDA, 14 PTB2/IRQ_7/LPUART0_RX/LPUART0_TX, 15 PTA8/I2C0_SCL/SPI0_MOSI, 16 PTA9/I2C0_SDA/SPI0_SCK, 17 PTB3/IRQ_10/I2C0_SCL/LPUART0_TX, 18 PTB4/IRQ_11/I2C0_SDA/LPUART0_RX, 19 PTB5/IRQ_12/TPM1_CH1/~{NMI}, 20 PTA12/IRQ_13/LPTMR0_ALT2/TPM1_CH0/TPM_CLKIN0CLKOUT, 21 PTB13/CLKOUT32K/TPM1_CH1/RTC_CLKOUT, 22 PTA0/IRQ_0/LLWU_P7/TPM1_CH0/SWD_CLK, 23 PTA1/IRQ_1/LPTMR0_ALT1/TPM_CLKIN0/~{RESET}, 24 PTA2/CMP0_OUT/SWD_DIO

## 0045 NXP Kinetis KL03 WLCSP20
designator IC?
pins: A1 PTB3/IRQ_10/I2C0_SCL/LPUART0_TX, A2 PTB5/IRQ_12/TPM1_CH1/~{NMI}, A3 PTB13/CLKOUT32K/TPM1_CH1/RTC_CLKOUT, A4 PTA0/IRQ_0/LLWU_P7/TPM1_CH0/SWD_CLK, A5 PTA2/CMP0_OUT/SWD_DIO, B1 PTB2/IRQ_7/LPUART0_RX/LPUART0_TX, B2 PTB4/IRQ_11/I2C0_SDA/LPUART0_RX, B3 PTA12/IRQ_13/LPTMR0_ALT2/TPM1_CH0/TPM_CLKIN0CLKOUT, B4 PTA1/IRQ_1/LPTMR0_ALT1/TPM_CLKIN0/~{RESET}, B5 VDD, C1 PTB0/IRQ_5/LLWU_P4/EXTRG_IN/SPI0_SCK/I2C0_SCL, C2 PTA9/I2C0_SDA/SPI0_SCK, C3 PTA4/I2C0_SDA/I2C0_SCL/LPUART0_RXCLKOUT, C4 PTA3/I2C0_SCL/I2C0_SDA/LPUART0_TX, C5 VSS, D1 PTB1/IRQ_6/LPUART0_TX/LPUART0_RX/I2C0_SDA, D2 PTA8/I2C0_SCL/SPI0_MOSI, D3 PTA5/RTC_CLK_IN/TPM0_CH1/~{SPI0_SS}, D4 PTA7/IRQ_4/SPI0_MISO/SPI0_MOSI, D5 PTA6/TPM0_CH0/SPI0_MISO

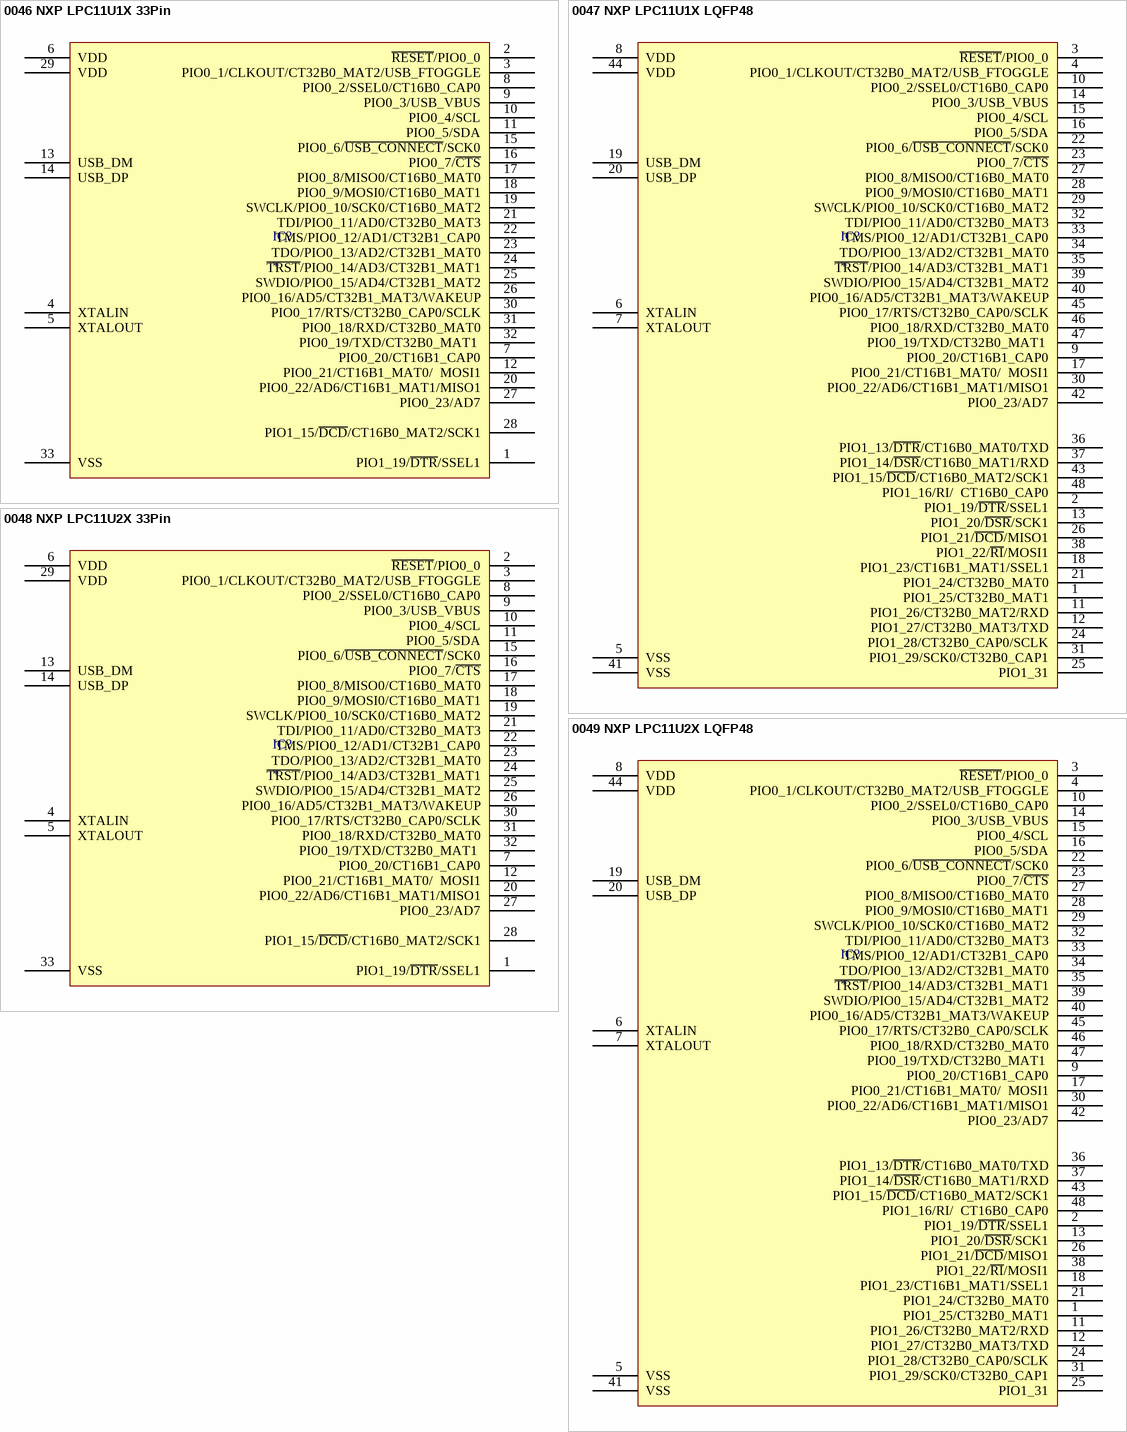
[diagram p19: symbols 0046 NXP LPC11U1X 33Pin to 0049 NXP LPC11U2X LQFP48]

## 0046 NXP LPC11U1X 33Pin
designator IC?
pins: 1 PIO1_19/~{DTR}/SSEL1, 2 ~{RESET}/PIO0_0, 3 PIO0_1/CLKOUT/CT32B0_MAT2/USB_FTOGGLE, 4 XTALIN, 5 XTALOUT, 6 VDD, 7 PIO0_20/CT16B1_CAP0, 8 PIO0_2/SSEL0/CT16B0_CAP0, 9 PIO0_3/USB_VBUS, 10 PIO0_4/SCL, 11 PIO0_5/SDA, 12 PIO0_21/CT16B1_MAT0/  MOSI1, 13 USB_DM, 14 USB_DP, 15 PIO0_6/~{USB_CONNECT}/SCK0, 16 PIO0_7/~{CTS}, 17 PIO0_8/MISO0/CT16B0_MAT0, 18 PIO0_9/MOSI0/CT16B0_MAT1, 19 SWCLK/PIO0_10/SCK0/CT16B0_MAT2, 20 PIO0_22/AD6/CT16B1_MAT1/MISO1, 21 TDI/PIO0_11/AD0/CT32B0_MAT3, 22 TMS/PIO0_12/AD1/CT32B1_CAP0, 23 TDO/PIO0_13/AD2/CT32B1_MAT0, 24 ~{TRST}/PIO0_14/AD3/CT32B1_MAT1, 25 SWDIO/PIO0_15/AD4/CT32B1_MAT2, 26 PIO0_16/AD5/CT32B1_MAT3/WAKEUP, 27 PIO0_23/AD7, 28 PIO1_15/~{DCD}/CT16B0_MAT2/SCK1, 29 VDD, 30 PIO0_17/RTS/CT32B0_CAP0/SCLK, 31 PIO0_18/RXD/CT32B0_MAT0, 32 PIO0_19/TXD/CT32B0_MAT1 , 33 VSS

## 0047 NXP LPC11U1X LQFP48
designator IC?
pins: 1 PIO1_25/CT32B0_MAT1, 2 PIO1_19/~{DTR}/SSEL1, 3 ~{RESET}/PIO0_0, 4 PIO0_1/CLKOUT/CT32B0_MAT2/USB_FTOGGLE, 5 VSS, 6 XTALIN, 7 XTALOUT, 8 VDD, 9 PIO0_20/CT16B1_CAP0, 10 PIO0_2/SSEL0/CT16B0_CAP0, 11 PIO1_26/CT32B0_MAT2/RXD, 12 PIO1_27/CT32B0_MAT3/TXD, 13 PIO1_20/~{DSR}/SCK1, 14 PIO0_3/USB_VBUS, 15 PIO0_4/SCL, 16 PIO0_5/SDA, 17 PIO0_21/CT16B1_MAT0/  MOSI1, 18 PIO1_23/CT16B1_MAT1/SSEL1, 19 USB_DM, 20 USB_DP, 21 PIO1_24/CT32B0_MAT0, 22 PIO0_6/~{USB_CONNECT}/SCK0, 23 PIO0_7/~{CTS}, 24 PIO1_28/CT32B0_CAP0/SCLK, 25 PIO1_31, 26 PIO1_21/~{DCD}/MISO1, 27 PIO0_8/MISO0/CT16B0_MAT0, 28 PIO0_9/MOSI0/CT16B0_MAT1, 29 SWCLK/PIO0_10/SCK0/CT16B0_MAT2, 30 PIO0_22/AD6/CT16B1_MAT1/MISO1, 31 PIO1_29/SCK0/CT32B0_CAP1, 32 TDI/PIO0_11/AD0/CT32B0_MAT3, 33 TMS/PIO0_12/AD1/CT32B1_CAP0, 34 TDO/PIO0_13/AD2/CT32B1_MAT0, 35 ~{TRST}/PIO0_14/AD3/CT32B1_MAT1, 36 PIO1_13/~{DTR}/CT16B0_MAT0/TXD, 37 PIO1_14/~{DSR}/CT16B0_MAT1/RXD, 38 PIO1_22/~{RI}/MOSI1, 39 SWDIO/PIO0_15/AD4/CT32B1_MAT2, 40 PIO0_16/AD5/CT32B1_MAT3/WAKEUP, 41 VSS, 42 PIO0_23/AD7, 43 PIO1_15/~{DCD}/CT16B0_MAT2/SCK1, 44 VDD, 45 PIO0_17/RTS/CT32B0_CAP0/SCLK, 46 PIO0_18/RXD/CT32B0_MAT0, 47 PIO0_19/TXD/CT32B0_MAT1 , 48 PIO1_16/RI/  CT16B0_CAP0

## 0048 NXP LPC11U2X 33Pin
designator IC?
pins: 1 PIO1_19/~{DTR}/SSEL1, 2 ~{RESET}/PIO0_0, 3 PIO0_1/CLKOUT/CT32B0_MAT2/USB_FTOGGLE, 4 XTALIN, 5 XTALOUT, 6 VDD, 7 PIO0_20/CT16B1_CAP0, 8 PIO0_2/SSEL0/CT16B0_CAP0, 9 PIO0_3/USB_VBUS, 10 PIO0_4/SCL, 11 PIO0_5/SDA, 12 PIO0_21/CT16B1_MAT0/  MOSI1, 13 USB_DM, 14 USB_DP, 15 PIO0_6/~{USB_CONNECT}/SCK0, 16 PIO0_7/~{CTS}, 17 PIO0_8/MISO0/CT16B0_MAT0, 18 PIO0_9/MOSI0/CT16B0_MAT1, 19 SWCLK/PIO0_10/SCK0/CT16B0_MAT2, 20 PIO0_22/AD6/CT16B1_MAT1/MISO1, 21 TDI/PIO0_11/AD0/CT32B0_MAT3, 22 TMS/PIO0_12/AD1/CT32B1_CAP0, 23 TDO/PIO0_13/AD2/CT32B1_MAT0, 24 ~{TRST}/PIO0_14/AD3/CT32B1_MAT1, 25 SWDIO/PIO0_15/AD4/CT32B1_MAT2, 26 PIO0_16/AD5/CT32B1_MAT3/WAKEUP, 27 PIO0_23/AD7, 28 PIO1_15/~{DCD}/CT16B0_MAT2/SCK1, 29 VDD, 30 PIO0_17/RTS/CT32B0_CAP0/SCLK, 31 PIO0_18/RXD/CT32B0_MAT0, 32 PIO0_19/TXD/CT32B0_MAT1 , 33 VSS

## 0049 NXP LPC11U2X LQFP48
designator IC?
pins: 1 PIO1_25/CT32B0_MAT1, 2 PIO1_19/~{DTR}/SSEL1, 3 ~{RESET}/PIO0_0, 4 PIO0_1/CLKOUT/CT32B0_MAT2/USB_FTOGGLE, 5 VSS, 6 XTALIN, 7 XTALOUT, 8 VDD, 9 PIO0_20/CT16B1_CAP0, 10 PIO0_2/SSEL0/CT16B0_CAP0, 11 PIO1_26/CT32B0_MAT2/RXD, 12 PIO1_27/CT32B0_MAT3/TXD, 13 PIO1_20/~{DSR}/SCK1, 14 PIO0_3/USB_VBUS, 15 PIO0_4/SCL, 16 PIO0_5/SDA, 17 PIO0_21/CT16B1_MAT0/  MOSI1, 18 PIO1_23/CT16B1_MAT1/SSEL1, 19 USB_DM, 20 USB_DP, 21 PIO1_24/CT32B0_MAT0, 22 PIO0_6/~{USB_CONNECT}/SCK0, 23 PIO0_7/~{CTS}, 24 PIO1_28/CT32B0_CAP0/SCLK, 25 PIO1_31, 26 PIO1_21/~{DCD}/MISO1, 27 PIO0_8/MISO0/CT16B0_MAT0, 28 PIO0_9/MOSI0/CT16B0_MAT1, 29 SWCLK/PIO0_10/SCK0/CT16B0_MAT2, 30 PIO0_22/AD6/CT16B1_MAT1/MISO1, 31 PIO1_29/SCK0/CT32B0_CAP1, 32 TDI/PIO0_11/AD0/CT32B0_MAT3, 33 TMS/PIO0_12/AD1/CT32B1_CAP0, 34 TDO/PIO0_13/AD2/CT32B1_MAT0, 35 ~{TRST}/PIO0_14/AD3/CT32B1_MAT1, 36 PIO1_13/~{DTR}/CT16B0_MAT0/TXD, 37 PIO1_14/~{DSR}/CT16B0_MAT1/RXD, 38 PIO1_22/~{RI}/MOSI1, 39 SWDIO/PIO0_15/AD4/CT32B1_MAT2, 40 PIO0_16/AD5/CT32B1_MAT3/WAKEUP, 41 VSS, 42 PIO0_23/AD7, 43 PIO1_15/~{DCD}/CT16B0_MAT2/SCK1, 44 VDD, 45 PIO0_17/RTS/CT32B0_CAP0/SCLK, 46 PIO0_18/RXD/CT32B0_MAT0, 47 PIO0_19/TXD/CT32B0_MAT1 , 48 PIO1_16/RI/  CT16B0_CAP0

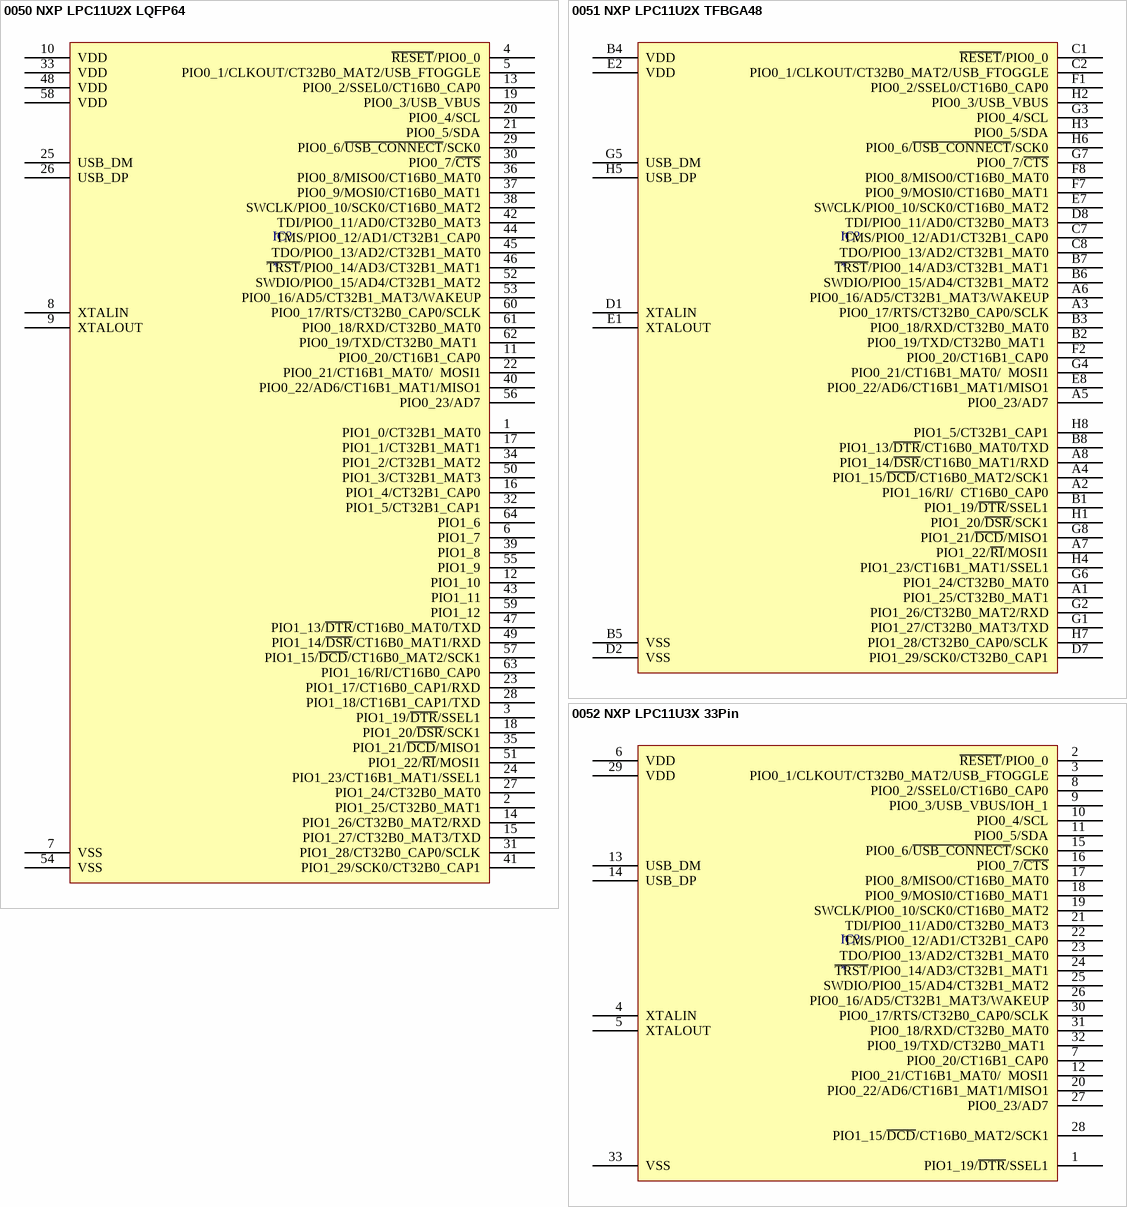
[diagram p20: symbols 0050 NXP LPC11U2X LQFP64 to 0052 NXP LPC11U3X 33Pin]

## 0050 NXP LPC11U2X LQFP64
designator IC?
pins: 1 PIO1_0/CT32B1_MAT0, 2 PIO1_25/CT32B0_MAT1, 3 PIO1_19/~{DTR}/SSEL1, 4 ~{RESET}/PIO0_0, 5 PIO0_1/CLKOUT/CT32B0_MAT2/USB_FTOGGLE, 6 PIO1_7, 7 VSS, 8 XTALIN, 9 XTALOUT, 10 VDD, 11 PIO0_20/CT16B1_CAP0, 12 PIO1_10, 13 PIO0_2/SSEL0/CT16B0_CAP0, 14 PIO1_26/CT32B0_MAT2/RXD, 15 PIO1_27/CT32B0_MAT3/TXD, 16 PIO1_4/CT32B1_CAP0, 17 PIO1_1/CT32B1_MAT1, 18 PIO1_20/~{DSR}/SCK1, 19 PIO0_3/USB_VBUS, 20 PIO0_4/SCL, 21 PIO0_5/SDA, 22 PIO0_21/CT16B1_MAT0/  MOSI1, 23 PIO1_17/CT16B0_CAP1/RXD, 24 PIO1_23/CT16B1_MAT1/SSEL1, 25 USB_DM, 26 USB_DP, 27 PIO1_24/CT32B0_MAT0, 28 PIO1_18/CT16B1_CAP1/TXD, 29 PIO0_6/~{USB_CONNECT}/SCK0, 30 PIO0_7/~{CTS}, 31 PIO1_28/CT32B0_CAP0/SCLK, 32 PIO1_5/CT32B1_CAP1, 33 VDD, 34 PIO1_2/CT32B1_MAT2, 35 PIO1_21/~{DCD}/MISO1, 36 PIO0_8/MISO0/CT16B0_MAT0, 37 PIO0_9/MOSI0/CT16B0_MAT1, 38 SWCLK/PIO0_10/SCK0/CT16B0_MAT2, 39 PIO1_8, 40 PIO0_22/AD6/CT16B1_MAT1/MISO1, 41 PIO1_29/SCK0/CT32B0_CAP1, 42 TDI/PIO0_11/AD0/CT32B0_MAT3, 43 PIO1_11, 44 TMS/PIO0_12/AD1/CT32B1_CAP0, 45 TDO/PIO0_13/AD2/CT32B1_MAT0, 46 ~{TRST}/PIO0_14/AD3/CT32B1_MAT1, 47 PIO1_13/~{DTR}/CT16B0_MAT0/TXD, 48 VDD, 49 PIO1_14/~{DSR}/CT16B0_MAT1/RXD, 50 PIO1_3/CT32B1_MAT3, 51 PIO1_22/~{RI}/MOSI1, 52 SWDIO/PIO0_15/AD4/CT32B1_MAT2, 53 PIO0_16/AD5/CT32B1_MAT3/WAKEUP, 54 VSS, 55 PIO1_9, 56 PIO0_23/AD7, 57 PIO1_15/~{DCD}/CT16B0_MAT2/SCK1, 58 VDD, 59 PIO1_12, 60 PIO0_17/RTS/CT32B0_CAP0/SCLK, 61 PIO0_18/RXD/CT32B0_MAT0, 62 PIO0_19/TXD/CT32B0_MAT1 , 63 PIO1_16/RI/CT16B0_CAP0, 64 PIO1_6

## 0051 NXP LPC11U2X TFBGA48
designator IC?
pins: A1 PIO1_25/CT32B0_MAT1, A2 PIO1_16/RI/  CT16B0_CAP0, A3 PIO0_17/RTS/CT32B0_CAP0/SCLK, A4 PIO1_15/~{DCD}/CT16B0_MAT2/SCK1, A5 PIO0_23/AD7, A6 PIO0_16/AD5/CT32B1_MAT3/WAKEUP, A7 PIO1_22/~{RI}/MOSI1, A8 PIO1_14/~{DSR}/CT16B0_MAT1/RXD, B1 PIO1_19/~{DTR}/SSEL1, B2 PIO0_19/TXD/CT32B0_MAT1 , B3 PIO0_18/RXD/CT32B0_MAT0, B4 VDD, B5 VSS, B6 SWDIO/PIO0_15/AD4/CT32B1_MAT2, B7 ~{TRST}/PIO0_14/AD3/CT32B1_MAT1, B8 PIO1_13/~{DTR}/CT16B0_MAT0/TXD, C1 ~{RESET}/PIO0_0, C2 PIO0_1/CLKOUT/CT32B0_MAT2/USB_FTOGGLE, C7 TMS/PIO0_12/AD1/CT32B1_CAP0, C8 TDO/PIO0_13/AD2/CT32B1_MAT0, D1 XTALIN, D2 VSS, D7 PIO1_29/SCK0/CT32B0_CAP1, D8 TDI/PIO0_11/AD0/CT32B0_MAT3, E1 XTALOUT, E2 VDD, E7 SWCLK/PIO0_10/SCK0/CT16B0_MAT2, E8 PIO0_22/AD6/CT16B1_MAT1/MISO1, F1 PIO0_2/SSEL0/CT16B0_CAP0, F2 PIO0_20/CT16B1_CAP0, F7 PIO0_9/MOSI0/CT16B0_MAT1, F8 PIO0_8/MISO0/CT16B0_MAT0, G1 PIO1_27/CT32B0_MAT3/TXD, G2 PIO1_26/CT32B0_MAT2/RXD, G3 PIO0_4/SCL, G4 PIO0_21/CT16B1_MAT0/  MOSI1, G5 USB_DM, G6 PIO1_24/CT32B0_MAT0, G7 PIO0_7/~{CTS}, G8 PIO1_21/~{DCD}/MISO1, H1 PIO1_20/~{DSR}/SCK1, H2 PIO0_3/USB_VBUS, H3 PIO0_5/SDA, H4 PIO1_23/CT16B1_MAT1/SSEL1, H5 USB_DP, H6 PIO0_6/~{USB_CONNECT}/SCK0, H7 PIO1_28/CT32B0_CAP0/SCLK, H8 PIO1_5/CT32B1_CAP1

## 0052 NXP LPC11U3X 33Pin
designator IC?
pins: 1 PIO1_19/~{DTR}/SSEL1, 2 ~{RESET}/PIO0_0, 3 PIO0_1/CLKOUT/CT32B0_MAT2/USB_FTOGGLE, 4 XTALIN, 5 XTALOUT, 6 VDD, 7 PIO0_20/CT16B1_CAP0, 8 PIO0_2/SSEL0/CT16B0_CAP0, 9 PIO0_3/USB_VBUS/IOH_1, 10 PIO0_4/SCL, 11 PIO0_5/SDA, 12 PIO0_21/CT16B1_MAT0/  MOSI1, 13 USB_DM, 14 USB_DP, 15 PIO0_6/~{USB_CONNECT}/SCK0, 16 PIO0_7/~{CTS}, 17 PIO0_8/MISO0/CT16B0_MAT0, 18 PIO0_9/MOSI0/CT16B0_MAT1, 19 SWCLK/PIO0_10/SCK0/CT16B0_MAT2, 20 PIO0_22/AD6/CT16B1_MAT1/MISO1, 21 TDI/PIO0_11/AD0/CT32B0_MAT3, 22 TMS/PIO0_12/AD1/CT32B1_CAP0, 23 TDO/PIO0_13/AD2/CT32B1_MAT0, 24 ~{TRST}/PIO0_14/AD3/CT32B1_MAT1, 25 SWDIO/PIO0_15/AD4/CT32B1_MAT2, 26 PIO0_16/AD5/CT32B1_MAT3/WAKEUP, 27 PIO0_23/AD7, 28 PIO1_15/~{DCD}/CT16B0_MAT2/SCK1, 29 VDD, 30 PIO0_17/RTS/CT32B0_CAP0/SCLK, 31 PIO0_18/RXD/CT32B0_MAT0, 32 PIO0_19/TXD/CT32B0_MAT1 , 33 VSS

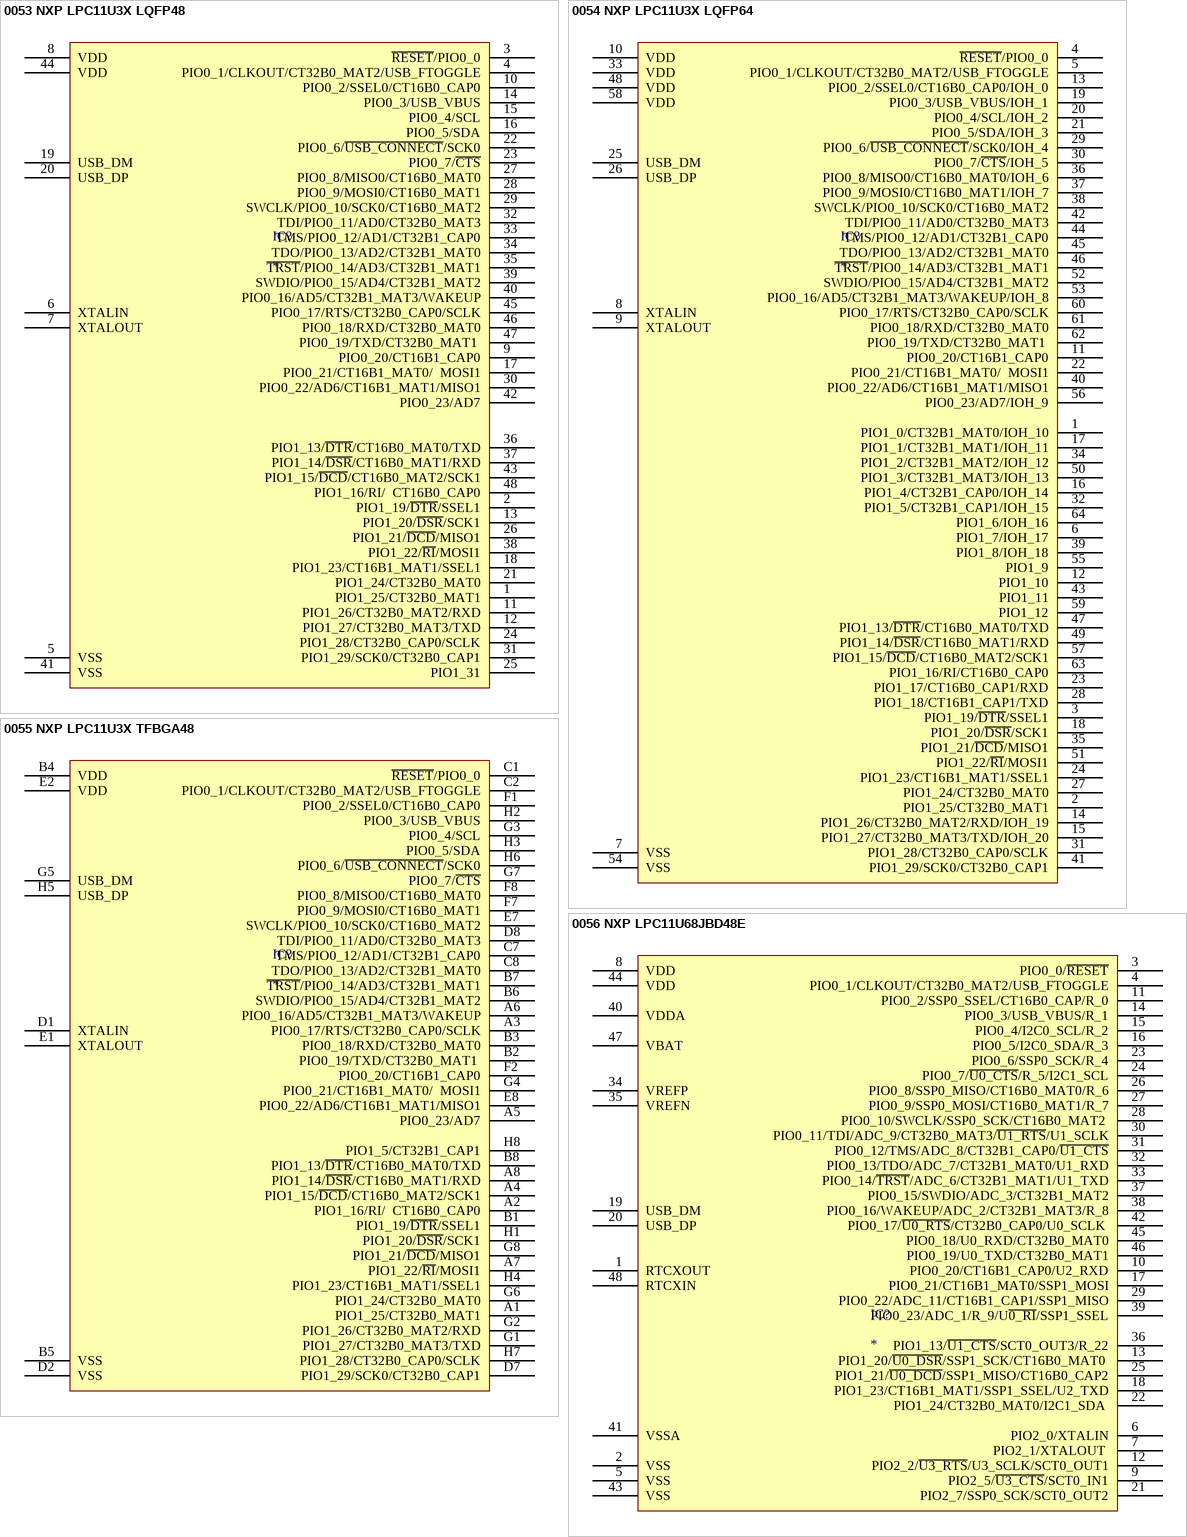
[diagram p21: symbols 0053 NXP LPC11U3X LQFP48 to 0056 NXP LPC11U68JBD48E]

## 0053 NXP LPC11U3X LQFP48
designator IC?
pins: 1 PIO1_25/CT32B0_MAT1, 2 PIO1_19/~{DTR}/SSEL1, 3 ~{RESET}/PIO0_0, 4 PIO0_1/CLKOUT/CT32B0_MAT2/USB_FTOGGLE, 5 VSS, 6 XTALIN, 7 XTALOUT, 8 VDD, 9 PIO0_20/CT16B1_CAP0, 10 PIO0_2/SSEL0/CT16B0_CAP0, 11 PIO1_26/CT32B0_MAT2/RXD, 12 PIO1_27/CT32B0_MAT3/TXD, 13 PIO1_20/~{DSR}/SCK1, 14 PIO0_3/USB_VBUS, 15 PIO0_4/SCL, 16 PIO0_5/SDA, 17 PIO0_21/CT16B1_MAT0/  MOSI1, 18 PIO1_23/CT16B1_MAT1/SSEL1, 19 USB_DM, 20 USB_DP, 21 PIO1_24/CT32B0_MAT0, 22 PIO0_6/~{USB_CONNECT}/SCK0, 23 PIO0_7/~{CTS}, 24 PIO1_28/CT32B0_CAP0/SCLK, 25 PIO1_31, 26 PIO1_21/~{DCD}/MISO1, 27 PIO0_8/MISO0/CT16B0_MAT0, 28 PIO0_9/MOSI0/CT16B0_MAT1, 29 SWCLK/PIO0_10/SCK0/CT16B0_MAT2, 30 PIO0_22/AD6/CT16B1_MAT1/MISO1, 31 PIO1_29/SCK0/CT32B0_CAP1, 32 TDI/PIO0_11/AD0/CT32B0_MAT3, 33 TMS/PIO0_12/AD1/CT32B1_CAP0, 34 TDO/PIO0_13/AD2/CT32B1_MAT0, 35 ~{TRST}/PIO0_14/AD3/CT32B1_MAT1, 36 PIO1_13/~{DTR}/CT16B0_MAT0/TXD, 37 PIO1_14/~{DSR}/CT16B0_MAT1/RXD, 38 PIO1_22/~{RI}/MOSI1, 39 SWDIO/PIO0_15/AD4/CT32B1_MAT2, 40 PIO0_16/AD5/CT32B1_MAT3/WAKEUP, 41 VSS, 42 PIO0_23/AD7, 43 PIO1_15/~{DCD}/CT16B0_MAT2/SCK1, 44 VDD, 45 PIO0_17/RTS/CT32B0_CAP0/SCLK, 46 PIO0_18/RXD/CT32B0_MAT0, 47 PIO0_19/TXD/CT32B0_MAT1 , 48 PIO1_16/RI/  CT16B0_CAP0

## 0054 NXP LPC11U3X LQFP64
designator IC?
pins: 1 PIO1_0/CT32B1_MAT0/IOH_10, 2 PIO1_25/CT32B0_MAT1, 3 PIO1_19/~{DTR}/SSEL1, 4 ~{RESET}/PIO0_0, 5 PIO0_1/CLKOUT/CT32B0_MAT2/USB_FTOGGLE, 6 PIO1_7/IOH_17, 7 VSS, 8 XTALIN, 9 XTALOUT, 10 VDD, 11 PIO0_20/CT16B1_CAP0, 12 PIO1_10, 13 PIO0_2/SSEL0/CT16B0_CAP0/IOH_0, 14 PIO1_26/CT32B0_MAT2/RXD/IOH_19, 15 PIO1_27/CT32B0_MAT3/TXD/IOH_20, 16 PIO1_4/CT32B1_CAP0/IOH_14, 17 PIO1_1/CT32B1_MAT1/IOH_11, 18 PIO1_20/~{DSR}/SCK1, 19 PIO0_3/USB_VBUS/IOH_1, 20 PIO0_4/SCL/IOH_2, 21 PIO0_5/SDA/IOH_3, 22 PIO0_21/CT16B1_MAT0/  MOSI1, 23 PIO1_17/CT16B0_CAP1/RXD, 24 PIO1_23/CT16B1_MAT1/SSEL1, 25 USB_DM, 26 USB_DP, 27 PIO1_24/CT32B0_MAT0, 28 PIO1_18/CT16B1_CAP1/TXD, 29 PIO0_6/~{USB_CONNECT}/SCK0/IOH_4, 30 PIO0_7/~{CTS}/IOH_5, 31 PIO1_28/CT32B0_CAP0/SCLK, 32 PIO1_5/CT32B1_CAP1/IOH_15, 33 VDD, 34 PIO1_2/CT32B1_MAT2/IOH_12, 35 PIO1_21/~{DCD}/MISO1, 36 PIO0_8/MISO0/CT16B0_MAT0/IOH_6, 37 PIO0_9/MOSI0/CT16B0_MAT1/IOH_7, 38 SWCLK/PIO0_10/SCK0/CT16B0_MAT2, 39 PIO1_8/IOH_18, 40 PIO0_22/AD6/CT16B1_MAT1/MISO1, 41 PIO1_29/SCK0/CT32B0_CAP1, 42 TDI/PIO0_11/AD0/CT32B0_MAT3, 43 PIO1_11, 44 TMS/PIO0_12/AD1/CT32B1_CAP0, 45 TDO/PIO0_13/AD2/CT32B1_MAT0, 46 ~{TRST}/PIO0_14/AD3/CT32B1_MAT1, 47 PIO1_13/~{DTR}/CT16B0_MAT0/TXD, 48 VDD, 49 PIO1_14/~{DSR}/CT16B0_MAT1/RXD, 50 PIO1_3/CT32B1_MAT3/IOH_13, 51 PIO1_22/~{RI}/MOSI1, 52 SWDIO/PIO0_15/AD4/CT32B1_MAT2, 53 PIO0_16/AD5/CT32B1_MAT3/WAKEUP/IOH_8, 54 VSS, 55 PIO1_9, 56 PIO0_23/AD7/IOH_9, 57 PIO1_15/~{DCD}/CT16B0_MAT2/SCK1, 58 VDD, 59 PIO1_12, 60 PIO0_17/RTS/CT32B0_CAP0/SCLK, 61 PIO0_18/RXD/CT32B0_MAT0, 62 PIO0_19/TXD/CT32B0_MAT1 , 63 PIO1_16/RI/CT16B0_CAP0, 64 PIO1_6/IOH_16

## 0055 NXP LPC11U3X TFBGA48
designator IC?
pins: A1 PIO1_25/CT32B0_MAT1, A2 PIO1_16/RI/  CT16B0_CAP0, A3 PIO0_17/RTS/CT32B0_CAP0/SCLK, A4 PIO1_15/~{DCD}/CT16B0_MAT2/SCK1, A5 PIO0_23/AD7, A6 PIO0_16/AD5/CT32B1_MAT3/WAKEUP, A7 PIO1_22/~{RI}/MOSI1, A8 PIO1_14/~{DSR}/CT16B0_MAT1/RXD, B1 PIO1_19/~{DTR}/SSEL1, B2 PIO0_19/TXD/CT32B0_MAT1 , B3 PIO0_18/RXD/CT32B0_MAT0, B4 VDD, B5 VSS, B6 SWDIO/PIO0_15/AD4/CT32B1_MAT2, B7 ~{TRST}/PIO0_14/AD3/CT32B1_MAT1, B8 PIO1_13/~{DTR}/CT16B0_MAT0/TXD, C1 ~{RESET}/PIO0_0, C2 PIO0_1/CLKOUT/CT32B0_MAT2/USB_FTOGGLE, C7 TMS/PIO0_12/AD1/CT32B1_CAP0, C8 TDO/PIO0_13/AD2/CT32B1_MAT0, D1 XTALIN, D2 VSS, D7 PIO1_29/SCK0/CT32B0_CAP1, D8 TDI/PIO0_11/AD0/CT32B0_MAT3, E1 XTALOUT, E2 VDD, E7 SWCLK/PIO0_10/SCK0/CT16B0_MAT2, E8 PIO0_22/AD6/CT16B1_MAT1/MISO1, F1 PIO0_2/SSEL0/CT16B0_CAP0, F2 PIO0_20/CT16B1_CAP0, F7 PIO0_9/MOSI0/CT16B0_MAT1, F8 PIO0_8/MISO0/CT16B0_MAT0, G1 PIO1_27/CT32B0_MAT3/TXD, G2 PIO1_26/CT32B0_MAT2/RXD, G3 PIO0_4/SCL, G4 PIO0_21/CT16B1_MAT0/  MOSI1, G5 USB_DM, G6 PIO1_24/CT32B0_MAT0, G7 PIO0_7/~{CTS}, G8 PIO1_21/~{DCD}/MISO1, H1 PIO1_20/~{DSR}/SCK1, H2 PIO0_3/USB_VBUS, H3 PIO0_5/SDA, H4 PIO1_23/CT16B1_MAT1/SSEL1, H5 USB_DP, H6 PIO0_6/~{USB_CONNECT}/SCK0, H7 PIO1_28/CT32B0_CAP0/SCLK, H8 PIO1_5/CT32B1_CAP1

## 0056 NXP LPC11U68JBD48E
designator IC?
pins: 1 RTCXOUT, 2 VSS, 3 PIO0_0/~{RESET}, 4 PIO0_1/CLKOUT/CT32B0_MAT2/USB_FTOGGLE, 5 VSS, 6 PIO2_0/XTALIN, 7 PIO2_1/XTALOUT , 8 VDD, 9 PIO2_5/~{U3_CTS}/SCT0_IN1, 10 PIO0_20/CT16B1_CAP0/U2_RXD, 11 PIO0_2/SSP0_SSEL/CT16B0_CAP/R_0, 12 PIO2_2/~{U3_RTS}/U3_SCLK/SCT0_OUT1, 13 PIO1_20/~{U0_DSR}/SSP1_SCK/CT16B0_MAT0 , 14 PIO0_3/USB_VBUS/R_1, 15 PIO0_4/I2C0_SCL/R_2, 16 PIO0_5/I2C0_SDA/R_3, 17 PIO0_21/CT16B1_MAT0/SSP1_MOSI, 18 PIO1_23/CT16B1_MAT1/SSP1_SSEL/U2_TXD, 19 USB_DM, 20 USB_DP, 21 PIO2_7/SSP0_SCK/SCT0_OUT2, 22 PIO1_24/CT32B0_MAT0/I2C1_SDA , 23 PIO0_6/SSP0_SCK/R_4, 24 PIO0_7/~{U0_CTS}/R_5/I2C1_SCL, 25 PIO1_21/~{U0_DCD}/SSP1_MISO/CT16B0_CAP2, 26 PIO0_8/SSP0_MISO/CT16B0_MAT0/R_6, 27 PIO0_9/SSP0_MOSI/CT16B0_MAT1/R_7, 28 PIO0_10/SWCLK/SSP0_SCK/CT16B0_MAT2 , 29 PIO0_22/ADC_11/CT16B1_CAP1/SSP1_MISO, 30 PIO0_11/TDI/ADC_9/CT32B0_MAT3/~{U1_RTS}/U1_SCLK, 31 PIO0_12/TMS/ADC_8/CT32B1_CAP0/~{U1_CTS}, 32 PIO0_13/TDO/ADC_7/CT32B1_MAT0/U1_RXD, 33 PIO0_14/~{TRST}/ADC_6/CT32B1_MAT1/U1_TXD, 34 VREFP, 35 VREFN, 36 PIO1_13/~{U1_CTS}/SCT0_OUT3/R_22, 37 PIO0_15/SWDIO/ADC_3/CT32B1_MAT2, 38 PIO0_16/WAKEUP/ADC_2/CT32B1_MAT3/R_8, 39 PIO0_23/ADC_1/R_9/U~{0_RI}/SSP1_SSEL, 40 VDDA, 41 VSSA, 42 PIO0_17/~{U0_RTS}/CT32B0_CAP0/U0_SCLK , 43 VSS, 44 VDD, 45 PIO0_18/U0_RXD/CT32B0_MAT0, 46 PIO0_19/U0_TXD/CT32B0_MAT1, 47 VBAT, 48 RTCXIN

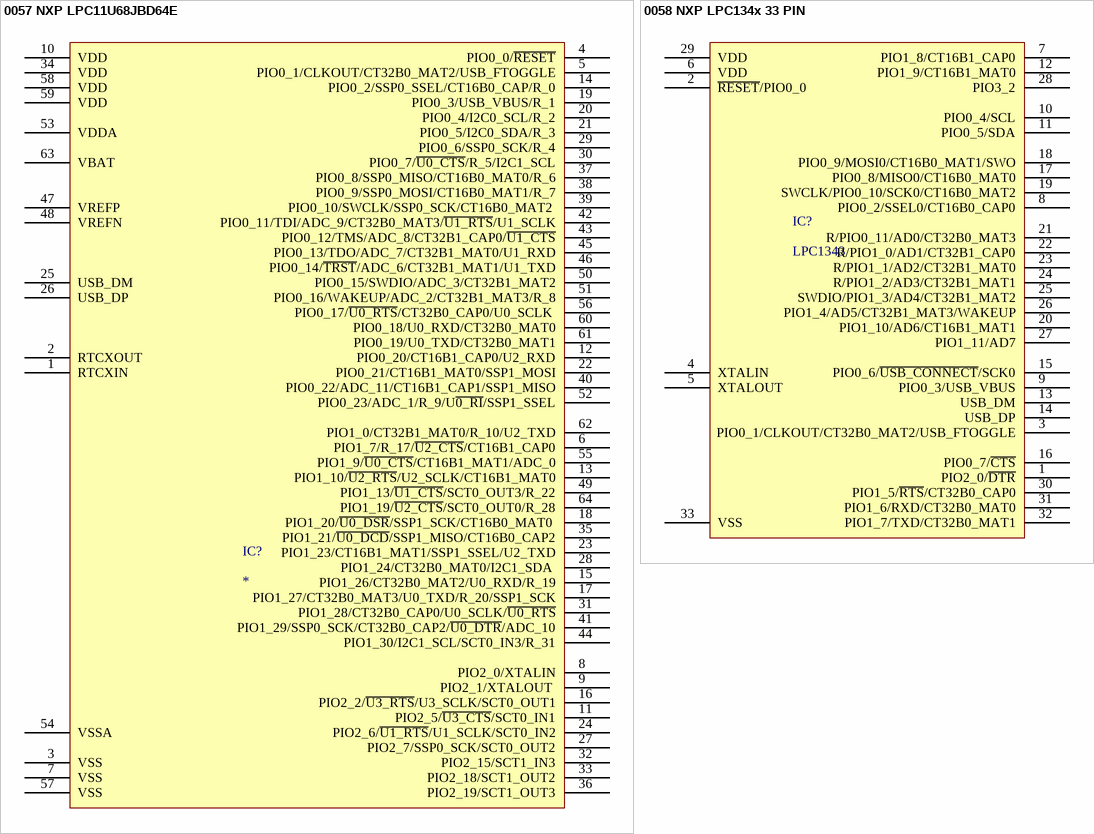
[diagram p22: symbols 0057 NXP LPC11U68JBD64E to 0058 NXP LPC134x 33 PIN]

## 0057 NXP LPC11U68JBD64E
designator IC?
pins: 1 RTCXIN, 2 RTCXOUT, 3 VSS, 4 PIO0_0/~{RESET}, 5 PIO0_1/CLKOUT/CT32B0_MAT2/USB_FTOGGLE, 6 PIO1_7/R_17/~{U2_CTS}/CT16B1_CAP0, 7 VSS, 8 PIO2_0/XTALIN, 9 PIO2_1/XTALOUT , 10 VDD, 11 PIO2_5/~{U3_CTS}/SCT0_IN1, 12 PIO0_20/CT16B1_CAP0/U2_RXD, 13 PIO1_10/~{U2_RTS}/U2_SCLK/CT16B1_MAT0, 14 PIO0_2/SSP0_SSEL/CT16B0_CAP/R_0, 15 PIO1_26/CT32B0_MAT2/U0_RXD/R_19, 16 PIO2_2/~{U3_RTS}/U3_SCLK/SCT0_OUT1, 17 PIO1_27/CT32B0_MAT3/U0_TXD/R_20/SSP1_SCK, 18 PIO1_20/~{U0_DSR}/SSP1_SCK/CT16B0_MAT0 , 19 PIO0_3/USB_VBUS/R_1, 20 PIO0_4/I2C0_SCL/R_2, 21 PIO0_5/I2C0_SDA/R_3, 22 PIO0_21/CT16B1_MAT0/SSP1_MOSI, 23 PIO1_23/CT16B1_MAT1/SSP1_SSEL/U2_TXD, 24 PIO2_6/~{U1_RTS}/U1_SCLK/SCT0_IN2, 25 USB_DM, 26 USB_DP, 27 PIO2_7/SSP0_SCK/SCT0_OUT2, 28 PIO1_24/CT32B0_MAT0/I2C1_SDA , 29 PIO0_6/SSP0_SCK/R_4, 30 PIO0_7/~{U0_CTS}/R_5/I2C1_SCL, 31 PIO1_28/CT32B0_CAP0/U0_SCLK/~{U0_RTS}, 32 PIO2_15/SCT1_IN3, 33 PIO2_18/SCT1_OUT2, 34 VDD, 35 PIO1_21/~{U0_DCD}/SSP1_MISO/CT16B0_CAP2, 36 PIO2_19/SCT1_OUT3, 37 PIO0_8/SSP0_MISO/CT16B0_MAT0/R_6, 38 PIO0_9/SSP0_MOSI/CT16B0_MAT1/R_7, 39 PIO0_10/SWCLK/SSP0_SCK/CT16B0_MAT2 , 40 PIO0_22/ADC_11/CT16B1_CAP1/SSP1_MISO, 41 PIO1_29/SSP0_SCK/CT32B0_CAP2/~{U0_DTR}/ADC_10, 42 PIO0_11/TDI/ADC_9/CT32B0_MAT3/~{U1_RTS}/U1_SCLK, 43 PIO0_12/TMS/ADC_8/CT32B1_CAP0/~{U1_CTS}, 44 PIO1_30/I2C1_SCL/SCT0_IN3/R_31, 45 PIO0_13/TDO/ADC_7/CT32B1_MAT0/U1_RXD, 46 PIO0_14/~{TRST}/ADC_6/CT32B1_MAT1/U1_TXD, 47 VREFP, 48 VREFN, 49 PIO1_13/~{U1_CTS}/SCT0_OUT3/R_22, 50 PIO0_15/SWDIO/ADC_3/CT32B1_MAT2, 51 PIO0_16/WAKEUP/ADC_2/CT32B1_MAT3/R_8, 52 PIO0_23/ADC_1/R_9/U~{0_RI}/SSP1_SSEL, 53 VDDA, 54 VSSA, 55 PIO1_9/~{U0_CTS}/CT16B1_MAT1/ADC_0, 56 PIO0_17/~{U0_RTS}/CT32B0_CAP0/U0_SCLK , 57 VSS, 58 VDD, 59 VDD, 60 PIO0_18/U0_RXD/CT32B0_MAT0, 61 PIO0_19/U0_TXD/CT32B0_MAT1, 62 PIO1_0/CT32B1_MAT0/R_10/U2_TXD, 63 VBAT, 64 PIO1_19/~{U2_CTS}/SCT0_OUT0/R_28

## 0058 NXP LPC134x 33 PIN
designator IC?, comment LPC1343
32-bit ARM Cortex-M3 microcontroller; up to 32kB flash and 8kB SRAM; USB device
pins: 1 PIO2_0/~{DTR}, 2 ~{RESET}/PIO0_0, 3 PIO0_1/CLKOUT/CT32B0_MAT2/USB_FTOGGLE, 4 XTALIN, 5 XTALOUT, 6 VDD, 7 PIO1_8/CT16B1_CAP0, 8 PIO0_2/SSEL0/CT16B0_CAP0, 9 PIO0_3/USB_VBUS, 10 PIO0_4/SCL, 11 PIO0_5/SDA, 12 PIO1_9/CT16B1_MAT0, 13 USB_DM, 14 USB_DP, 15 PIO0_6/~{USB_CONNECT}/SCK0, 16 PIO0_7/~{CTS}, 17 PIO0_8/MISO0/CT16B0_MAT0, 18 PIO0_9/MOSI0/CT16B0_MAT1/SWO, 19 SWCLK/PIO0_10/SCK0/CT16B0_MAT2, 20 PIO1_10/AD6/CT16B1_MAT1, 21 R/PIO0_11/AD0/CT32B0_MAT3, 22 R/PIO1_0/AD1/CT32B1_CAP0, 23 R/PIO1_1/AD2/CT32B1_MAT0, 24 R/PIO1_2/AD3/CT32B1_MAT1, 25 SWDIO/PIO1_3/AD4/CT32B1_MAT2, 26 PIO1_4/AD5/CT32B1_MAT3/WAKEUP, 27 PIO1_11/AD7, 28 PIO3_2, 29 VDD, 30 PIO1_5/~{RTS}/CT32B0_CAP0, 31 PIO1_6/RXD/CT32B0_MAT0, 32 PIO1_7/TXD/CT32B0_MAT1, 33 VSS

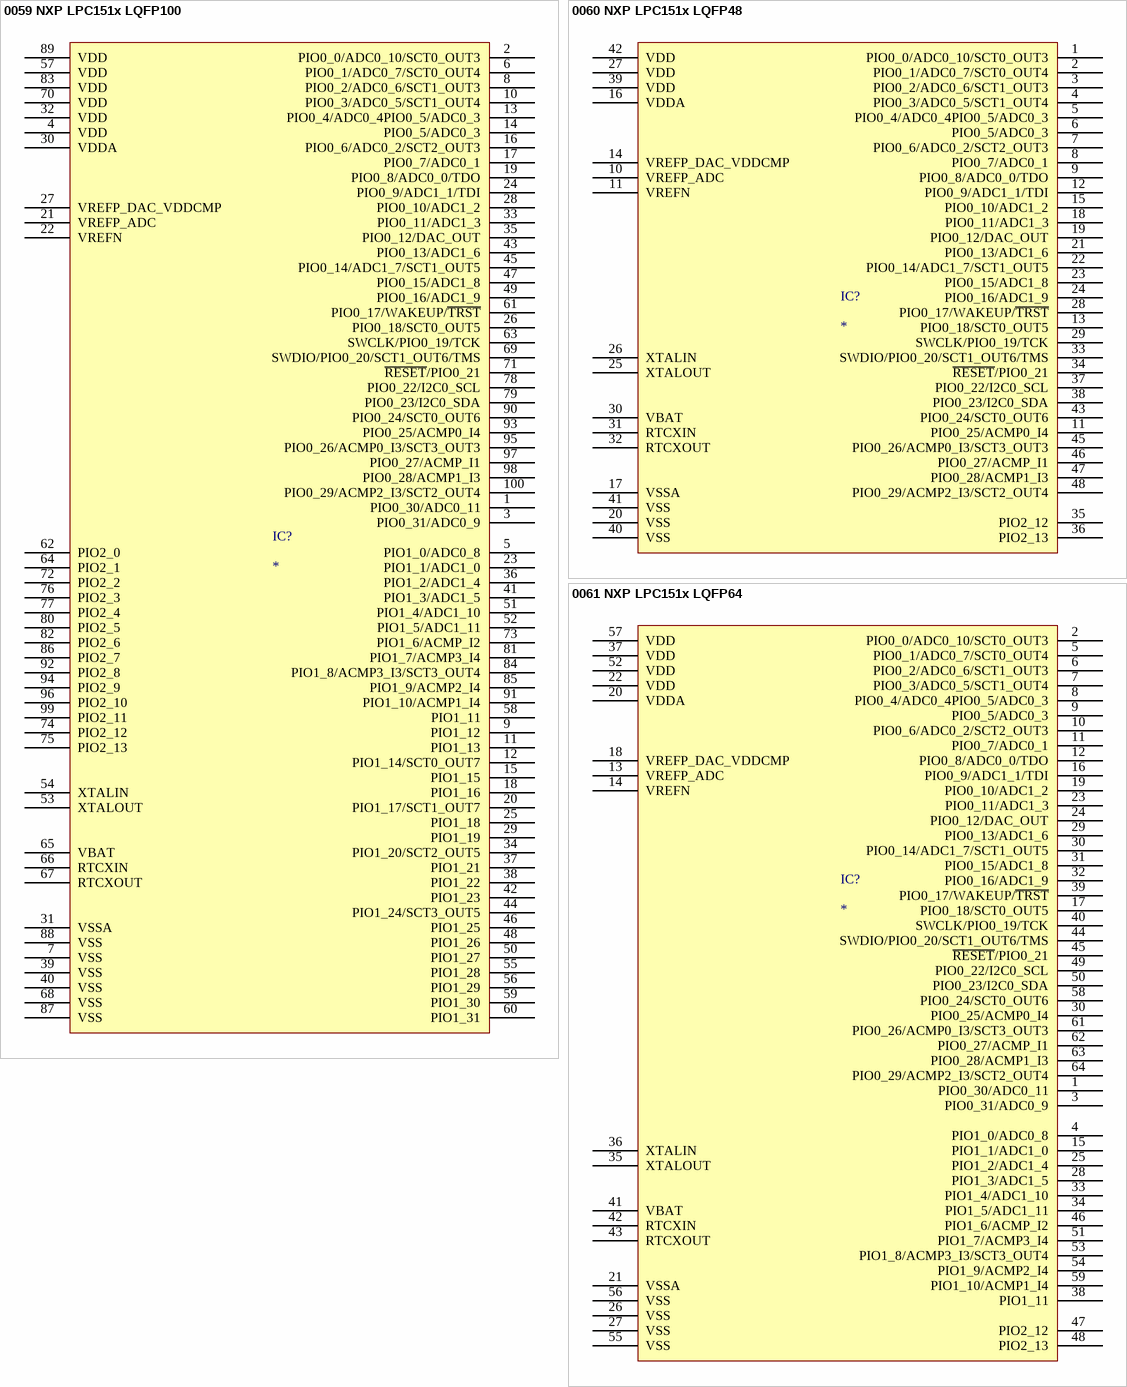
[diagram p23: symbols 0059 NXP LPC151x LQFP100 to 0061 NXP LPC151x LQFP64]

## 0059 NXP LPC151x LQFP100
designator IC?
pins: 1 PIO0_30/ADC0_11, 2 PIO0_0/ADC0_10/SCT0_OUT3, 3 PIO0_31/ADC0_9, 4 VDD, 5 PIO1_0/ADC0_8, 6 PIO0_1/ADC0_7/SCT0_OUT4, 7 VSS, 8 PIO0_2/ADC0_6/SCT1_OUT3, 9 PIO1_12, 10 PIO0_3/ADC0_5/SCT1_OUT4, 11 PIO1_13, 12 PIO1_14/SCT0_OUT7, 13 PIO0_4/ADC0_4PIO0_5/ADC0_3, 14 PIO0_5/ADC0_3, 15 PIO1_15, 16 PIO0_6/ADC0_2/SCT2_OUT3, 17 PIO0_7/ADC0_1, 18 PIO1_16, 19 PIO0_8/ADC0_0/TDO, 20 PIO1_17/SCT1_OUT7, 21 VREFP_ADC, 22 VREFN, 23 PIO1_1/ADC1_0, 24 PIO0_9/ADC1_1/TDI, 25 PIO1_18, 26 PIO0_18/SCT0_OUT5, 27 VREFP_DAC_VDDCMP, 28 PIO0_10/ADC1_2, 29 PIO1_19, 30 VDDA, 31 VSSA, 32 VDD, 33 PIO0_11/ADC1_3, 34 PIO1_20/SCT2_OUT5, 35 PIO0_12/DAC_OUT, 36 PIO1_2/ADC1_4, 37 PIO1_21, 38 PIO1_22, 39 VSS, 40 VSS, 41 PIO1_3/ADC1_5, 42 PIO1_23, 43 PIO0_13/ADC1_6, 44 PIO1_24/SCT3_OUT5, 45 PIO0_14/ADC1_7/SCT1_OUT5, 46 PIO1_25, 47 PIO0_15/ADC1_8, 48 PIO1_26, 49 PIO0_16/ADC1_9, 50 PIO1_27, 51 PIO1_4/ADC1_10, 52 PIO1_5/ADC1_11, 53 XTALOUT, 54 XTALIN, 55 PIO1_28, 56 PIO1_29, 57 VDD, 58 PIO1_11, 59 PIO1_30, 60 PIO1_31, 61 PIO0_17/WAKEUP/~{TRST}, 62 PIO2_0, 63 SWCLK/PIO0_19/TCK, 64 PIO2_1, 65 VBAT, 66 RTCXIN, 67 RTCXOUT, 68 VSS, 69 SWDIO/PIO0_20/SCT1_OUT6/TMS, 70 VDD, 71 ~{RESET}/PIO0_21, 72 PIO2_2, 73 PIO1_6/ACMP_I2, 74 PIO2_12, 75 PIO2_13, 76 PIO2_3, 77 PIO2_4, 78 PIO0_22/I2C0_SCL, 79 PIO0_23/I2C0_SDA, 80 PIO2_5, 81 PIO1_7/ACMP3_I4, 82 PIO2_6, 83 VDD, 84 PIO1_8/ACMP3_I3/SCT3_OUT4, 85 PIO1_9/ACMP2_I4, 86 PIO2_7, 87 VSS, 88 VSS, 89 VDD, 90 PIO0_24/SCT0_OUT6, 91 PIO1_10/ACMP1_I4, 92 PIO2_8, 93 PIO0_25/ACMP0_I4, 94 PIO2_9, 95 PIO0_26/ACMP0_I3/SCT3_OUT3, 96 PIO2_10, 97 PIO0_27/ACMP_I1, 98 PIO0_28/ACMP1_I3, 99 PIO2_11, 100 PIO0_29/ACMP2_I3/SCT2_OUT4

## 0060 NXP LPC151x LQFP48
designator IC?
pins: 1 PIO0_0/ADC0_10/SCT0_OUT3, 2 PIO0_1/ADC0_7/SCT0_OUT4, 3 PIO0_2/ADC0_6/SCT1_OUT3, 4 PIO0_3/ADC0_5/SCT1_OUT4, 5 PIO0_4/ADC0_4PIO0_5/ADC0_3, 6 PIO0_5/ADC0_3, 7 PIO0_6/ADC0_2/SCT2_OUT3, 8 PIO0_7/ADC0_1, 9 PIO0_8/ADC0_0/TDO, 10 VREFP_ADC, 11 PIO0_25/ACMP0_I4, 11 VREFN, 12 PIO0_9/ADC1_1/TDI, 13 PIO0_18/SCT0_OUT5, 14 VREFP_DAC_VDDCMP, 15 PIO0_10/ADC1_2, 16 VDDA, 17 VSSA, 18 PIO0_11/ADC1_3, 19 PIO0_12/DAC_OUT, 20 VSS, 21 PIO0_13/ADC1_6, 22 PIO0_14/ADC1_7/SCT1_OUT5, 23 PIO0_15/ADC1_8, 24 PIO0_16/ADC1_9, 25 XTALOUT, 26 XTALIN, 27 VDD, 28 PIO0_17/WAKEUP/~{TRST}, 29 SWCLK/PIO0_19/TCK, 30 VBAT, 31 RTCXIN, 32 RTCXOUT, 33 SWDIO/PIO0_20/SCT1_OUT6/TMS, 34 ~{RESET}/PIO0_21, 35 PIO2_12, 36 PIO2_13, 37 PIO0_22/I2C0_SCL, 38 PIO0_23/I2C0_SDA, 39 VDD, 40 VSS, 41 VSS, 42 VDD, 43 PIO0_24/SCT0_OUT6, 45 PIO0_26/ACMP0_I3/SCT3_OUT3, 46 PIO0_27/ACMP_I1, 47 PIO0_28/ACMP1_I3, 48 PIO0_29/ACMP2_I3/SCT2_OUT4

## 0061 NXP LPC151x LQFP64
designator IC?
pins: 1 PIO0_30/ADC0_11, 2 PIO0_0/ADC0_10/SCT0_OUT3, 3 PIO0_31/ADC0_9, 4 PIO1_0/ADC0_8, 5 PIO0_1/ADC0_7/SCT0_OUT4, 6 PIO0_2/ADC0_6/SCT1_OUT3, 7 PIO0_3/ADC0_5/SCT1_OUT4, 8 PIO0_4/ADC0_4PIO0_5/ADC0_3, 9 PIO0_5/ADC0_3, 10 PIO0_6/ADC0_2/SCT2_OUT3, 11 PIO0_7/ADC0_1, 12 PIO0_8/ADC0_0/TDO, 13 VREFP_ADC, 14 VREFN, 15 PIO1_1/ADC1_0, 16 PIO0_9/ADC1_1/TDI, 17 PIO0_18/SCT0_OUT5, 18 VREFP_DAC_VDDCMP, 19 PIO0_10/ADC1_2, 20 VDDA, 21 VSSA, 22 VDD, 23 PIO0_11/ADC1_3, 24 PIO0_12/DAC_OUT, 25 PIO1_2/ADC1_4, 26 VSS, 27 VSS, 28 PIO1_3/ADC1_5, 29 PIO0_13/ADC1_6, 30 PIO0_14/ADC1_7/SCT1_OUT5, 30 PIO0_25/ACMP0_I4, 31 PIO0_15/ADC1_8, 32 PIO0_16/ADC1_9, 33 PIO1_4/ADC1_10, 34 PIO1_5/ADC1_11, 35 XTALOUT, 36 XTALIN, 37 VDD, 38 PIO1_11, 39 PIO0_17/WAKEUP/~{TRST}, 40 SWCLK/PIO0_19/TCK, 41 VBAT, 42 RTCXIN, 43 RTCXOUT, 44 SWDIO/PIO0_20/SCT1_OUT6/TMS, 45 ~{RESET}/PIO0_21, 46 PIO1_6/ACMP_I2, 47 PIO2_12, 48 PIO2_13, 49 PIO0_22/I2C0_SCL, 50 PIO0_23/I2C0_SDA, 51 PIO1_7/ACMP3_I4, 52 VDD, 53 PIO1_8/ACMP3_I3/SCT3_OUT4, 54 PIO1_9/ACMP2_I4, 55 VSS, 56 VSS, 57 VDD, 58 PIO0_24/SCT0_OUT6, 59 PIO1_10/ACMP1_I4, 61 PIO0_26/ACMP0_I3/SCT3_OUT3, 62 PIO0_27/ACMP_I1, 63 PIO0_28/ACMP1_I3, 64 PIO0_29/ACMP2_I3/SCT2_OUT4

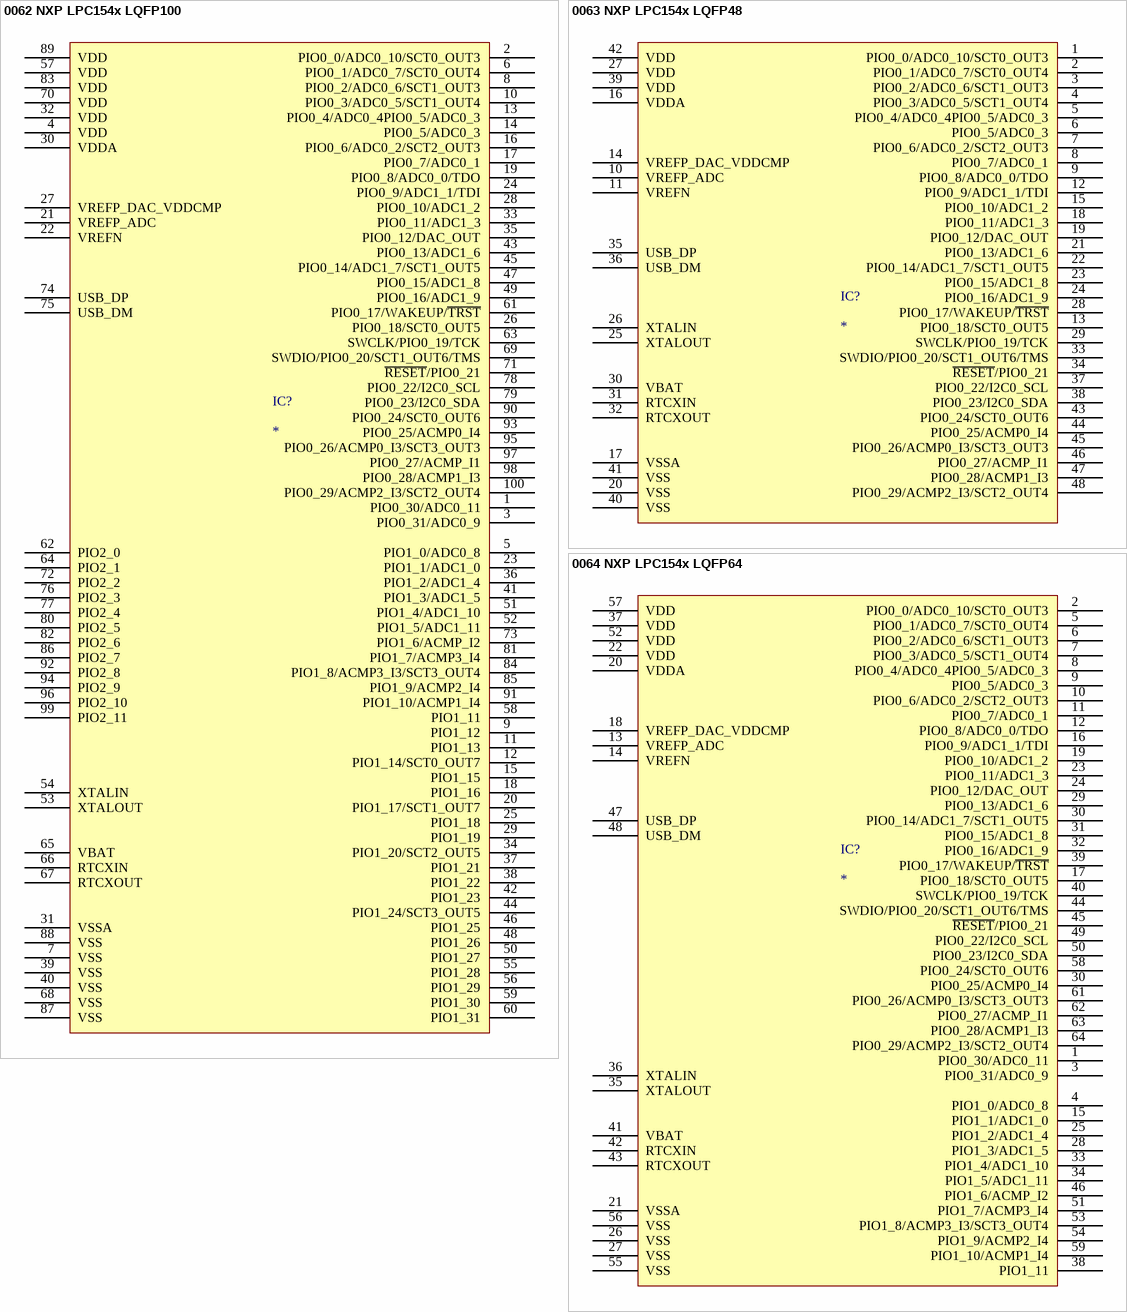
[diagram p24: symbols 0062 NXP LPC154x LQFP100 to 0064 NXP LPC154x LQFP64]

## 0062 NXP LPC154x LQFP100
designator IC?
pins: 1 PIO0_30/ADC0_11, 2 PIO0_0/ADC0_10/SCT0_OUT3, 3 PIO0_31/ADC0_9, 4 VDD, 5 PIO1_0/ADC0_8, 6 PIO0_1/ADC0_7/SCT0_OUT4, 7 VSS, 8 PIO0_2/ADC0_6/SCT1_OUT3, 9 PIO1_12, 10 PIO0_3/ADC0_5/SCT1_OUT4, 11 PIO1_13, 12 PIO1_14/SCT0_OUT7, 13 PIO0_4/ADC0_4PIO0_5/ADC0_3, 14 PIO0_5/ADC0_3, 15 PIO1_15, 16 PIO0_6/ADC0_2/SCT2_OUT3, 17 PIO0_7/ADC0_1, 18 PIO1_16, 19 PIO0_8/ADC0_0/TDO, 20 PIO1_17/SCT1_OUT7, 21 VREFP_ADC, 22 VREFN, 23 PIO1_1/ADC1_0, 24 PIO0_9/ADC1_1/TDI, 25 PIO1_18, 26 PIO0_18/SCT0_OUT5, 27 VREFP_DAC_VDDCMP, 28 PIO0_10/ADC1_2, 29 PIO1_19, 30 VDDA, 31 VSSA, 32 VDD, 33 PIO0_11/ADC1_3, 34 PIO1_20/SCT2_OUT5, 35 PIO0_12/DAC_OUT, 36 PIO1_2/ADC1_4, 37 PIO1_21, 38 PIO1_22, 39 VSS, 40 VSS, 41 PIO1_3/ADC1_5, 42 PIO1_23, 43 PIO0_13/ADC1_6, 44 PIO1_24/SCT3_OUT5, 45 PIO0_14/ADC1_7/SCT1_OUT5, 46 PIO1_25, 47 PIO0_15/ADC1_8, 48 PIO1_26, 49 PIO0_16/ADC1_9, 50 PIO1_27, 51 PIO1_4/ADC1_10, 52 PIO1_5/ADC1_11, 53 XTALOUT, 54 XTALIN, 55 PIO1_28, 56 PIO1_29, 57 VDD, 58 PIO1_11, 59 PIO1_30, 60 PIO1_31, 61 PIO0_17/WAKEUP/~{TRST}, 62 PIO2_0, 63 SWCLK/PIO0_19/TCK, 64 PIO2_1, 65 VBAT, 66 RTCXIN, 67 RTCXOUT, 68 VSS, 69 SWDIO/PIO0_20/SCT1_OUT6/TMS, 70 VDD, 71 ~{RESET}/PIO0_21, 72 PIO2_2, 73 PIO1_6/ACMP_I2, 74 USB_DP, 75 USB_DM, 76 PIO2_3, 77 PIO2_4, 78 PIO0_22/I2C0_SCL, 79 PIO0_23/I2C0_SDA, 80 PIO2_5, 81 PIO1_7/ACMP3_I4, 82 PIO2_6, 83 VDD, 84 PIO1_8/ACMP3_I3/SCT3_OUT4, 85 PIO1_9/ACMP2_I4, 86 PIO2_7, 87 VSS, 88 VSS, 89 VDD, 90 PIO0_24/SCT0_OUT6, 91 PIO1_10/ACMP1_I4, 92 PIO2_8, 93 PIO0_25/ACMP0_I4, 94 PIO2_9, 95 PIO0_26/ACMP0_I3/SCT3_OUT3, 96 PIO2_10, 97 PIO0_27/ACMP_I1, 98 PIO0_28/ACMP1_I3, 99 PIO2_11, 100 PIO0_29/ACMP2_I3/SCT2_OUT4

## 0063 NXP LPC154x LQFP48
designator IC?
pins: 1 PIO0_0/ADC0_10/SCT0_OUT3, 2 PIO0_1/ADC0_7/SCT0_OUT4, 3 PIO0_2/ADC0_6/SCT1_OUT3, 4 PIO0_3/ADC0_5/SCT1_OUT4, 5 PIO0_4/ADC0_4PIO0_5/ADC0_3, 6 PIO0_5/ADC0_3, 7 PIO0_6/ADC0_2/SCT2_OUT3, 8 PIO0_7/ADC0_1, 9 PIO0_8/ADC0_0/TDO, 10 VREFP_ADC, 11 VREFN, 12 PIO0_9/ADC1_1/TDI, 13 PIO0_18/SCT0_OUT5, 14 VREFP_DAC_VDDCMP, 15 PIO0_10/ADC1_2, 16 VDDA, 17 VSSA, 18 PIO0_11/ADC1_3, 19 PIO0_12/DAC_OUT, 20 VSS, 21 PIO0_13/ADC1_6, 22 PIO0_14/ADC1_7/SCT1_OUT5, 23 PIO0_15/ADC1_8, 24 PIO0_16/ADC1_9, 25 XTALOUT, 26 XTALIN, 27 VDD, 28 PIO0_17/WAKEUP/~{TRST}, 29 SWCLK/PIO0_19/TCK, 30 VBAT, 31 RTCXIN, 32 RTCXOUT, 33 SWDIO/PIO0_20/SCT1_OUT6/TMS, 34 ~{RESET}/PIO0_21, 35 USB_DP, 36 USB_DM, 37 PIO0_22/I2C0_SCL, 38 PIO0_23/I2C0_SDA, 39 VDD, 40 VSS, 41 VSS, 42 VDD, 43 PIO0_24/SCT0_OUT6, 44 PIO0_25/ACMP0_I4, 45 PIO0_26/ACMP0_I3/SCT3_OUT3, 46 PIO0_27/ACMP_I1, 47 PIO0_28/ACMP1_I3, 48 PIO0_29/ACMP2_I3/SCT2_OUT4

## 0064 NXP LPC154x LQFP64
designator IC?
pins: 1 PIO0_30/ADC0_11, 2 PIO0_0/ADC0_10/SCT0_OUT3, 3 PIO0_31/ADC0_9, 4 PIO1_0/ADC0_8, 5 PIO0_1/ADC0_7/SCT0_OUT4, 6 PIO0_2/ADC0_6/SCT1_OUT3, 7 PIO0_3/ADC0_5/SCT1_OUT4, 8 PIO0_4/ADC0_4PIO0_5/ADC0_3, 9 PIO0_5/ADC0_3, 10 PIO0_6/ADC0_2/SCT2_OUT3, 11 PIO0_7/ADC0_1, 12 PIO0_8/ADC0_0/TDO, 13 VREFP_ADC, 14 VREFN, 15 PIO1_1/ADC1_0, 16 PIO0_9/ADC1_1/TDI, 17 PIO0_18/SCT0_OUT5, 18 VREFP_DAC_VDDCMP, 19 PIO0_10/ADC1_2, 20 VDDA, 21 VSSA, 22 VDD, 23 PIO0_11/ADC1_3, 24 PIO0_12/DAC_OUT, 25 PIO1_2/ADC1_4, 26 VSS, 27 VSS, 28 PIO1_3/ADC1_5, 29 PIO0_13/ADC1_6, 30 PIO0_14/ADC1_7/SCT1_OUT5, 30 PIO0_25/ACMP0_I4, 31 PIO0_15/ADC1_8, 32 PIO0_16/ADC1_9, 33 PIO1_4/ADC1_10, 34 PIO1_5/ADC1_11, 35 XTALOUT, 36 XTALIN, 37 VDD, 38 PIO1_11, 39 PIO0_17/WAKEUP/~{TRST}, 40 SWCLK/PIO0_19/TCK, 41 VBAT, 42 RTCXIN, 43 RTCXOUT, 44 SWDIO/PIO0_20/SCT1_OUT6/TMS, 45 ~{RESET}/PIO0_21, 46 PIO1_6/ACMP_I2, 47 USB_DP, 48 USB_DM, 49 PIO0_22/I2C0_SCL, 50 PIO0_23/I2C0_SDA, 51 PIO1_7/ACMP3_I4, 52 VDD, 53 PIO1_8/ACMP3_I3/SCT3_OUT4, 54 PIO1_9/ACMP2_I4, 55 VSS, 56 VSS, 57 VDD, 58 PIO0_24/SCT0_OUT6, 59 PIO1_10/ACMP1_I4, 61 PIO0_26/ACMP0_I3/SCT3_OUT3, 62 PIO0_27/ACMP_I1, 63 PIO0_28/ACMP1_I3, 64 PIO0_29/ACMP2_I3/SCT2_OUT4

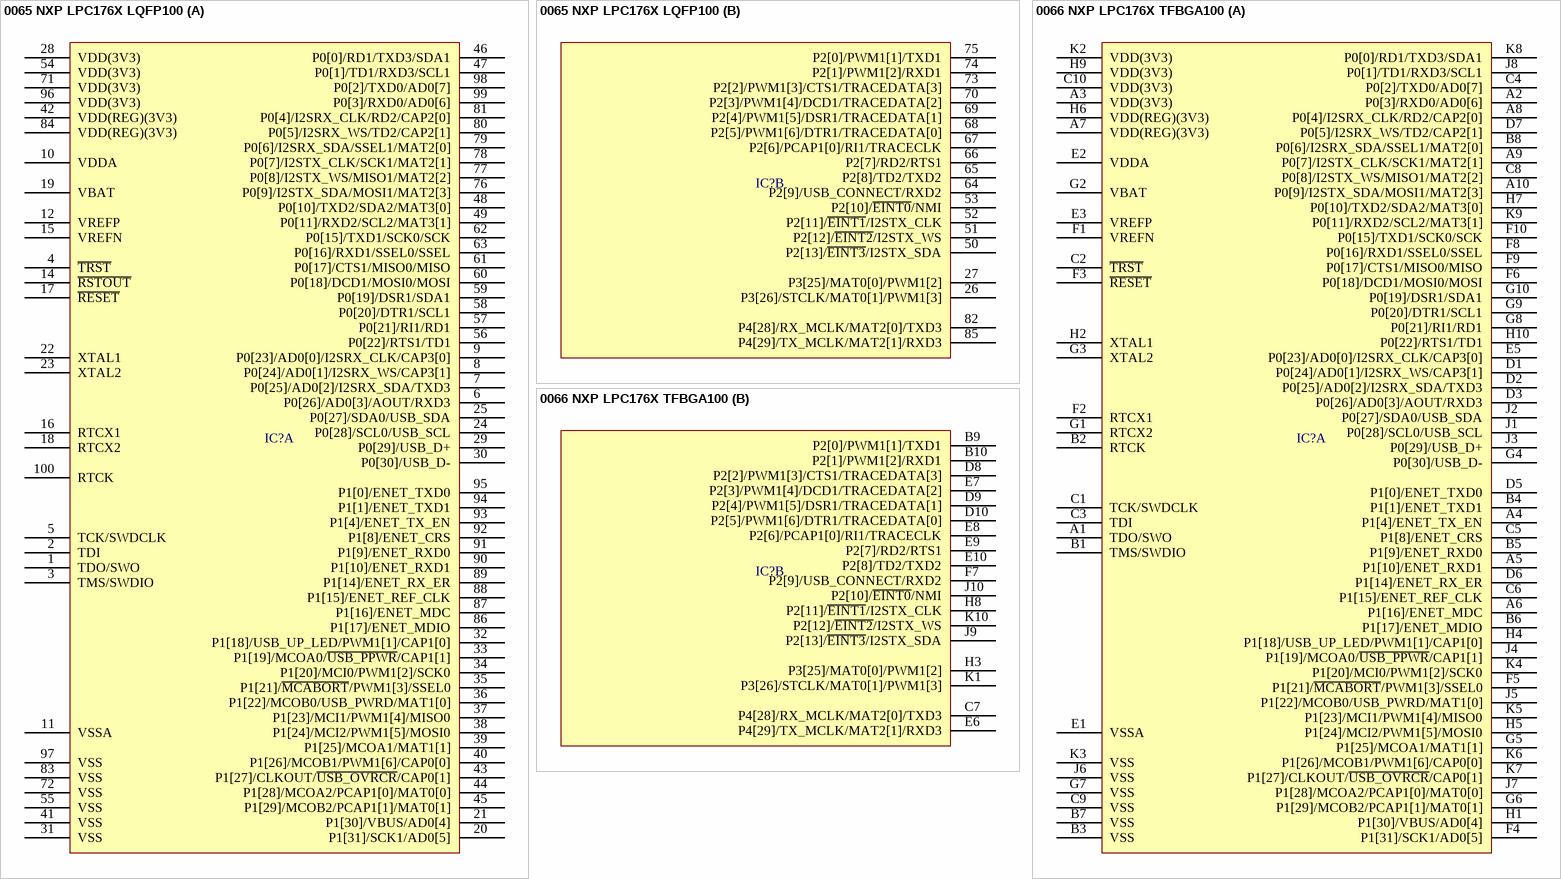
[diagram p25: symbols 0065 NXP LPC176X LQFP100 to 0066 NXP LPC176X TFBGA100]